# Altium schematic symbol library Nuvoton_Nano100BN Series.SchLib: 17 symbols
Pins are listed as number, name and electrical type; pins without a type are passive.

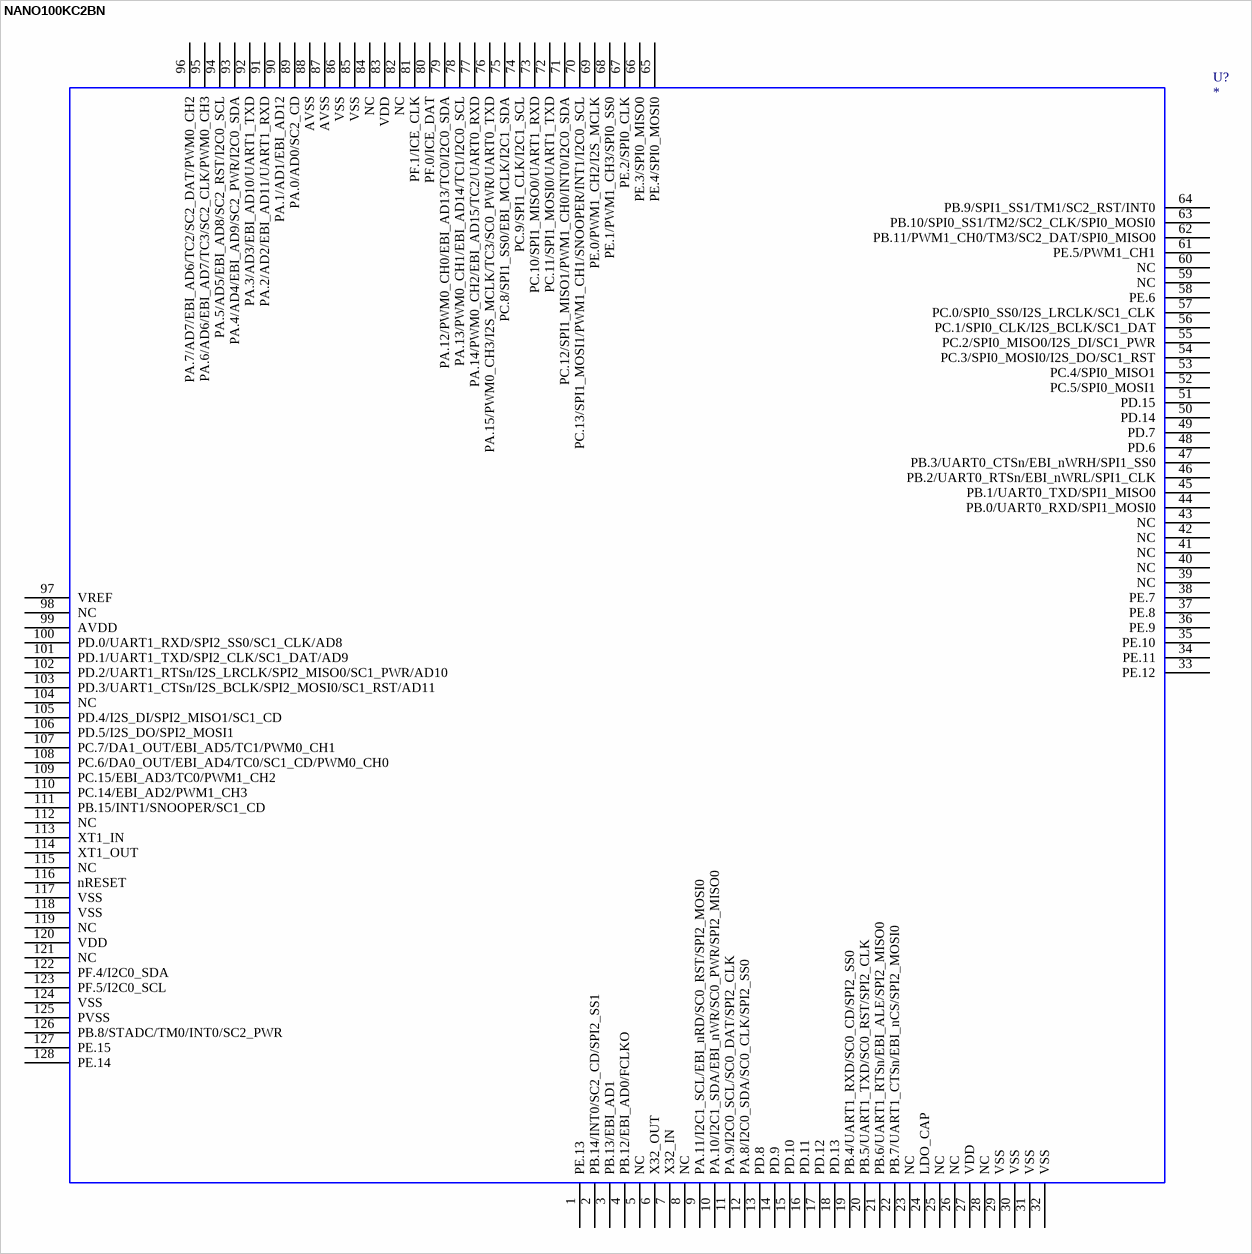
[diagram p0: symbol NANO100KC2BN]

## NANO100KC2BN
designator U?
NANO100KC2BN; OriginalSymbolOrigin: *; NANO100KC2BN: *; Value: *
footprint __MCU_LQFP_128__
pins: 1 PE.13, 2 PB.14/INT0/SC2_CD/SPI2_SS1, 3 PB.13/EBI_AD1, 4 PB.12/EBI_AD0/FCLKO, 5 NC, 6 X32_OUT, 7 X32_IN, 8 NC, 9 PA.11/I2C1_SCL/EBI_nRD/SC0_RST/SPI2_MOSI0, 10 PA.10/I2C1_SDA/EBI_nWR/SC0_PWR/SPI2_MISO0, 11 PA.9/I2C0_SCL/SC0_DAT/SPI2_CLK, 12 PA.8/I2C0_SDA/SC0_CLK/SPI2_SS0, 13 PD.8, 14 PD.9, 15 PD.10, 16 PD.11, 17 PD.12, 18 PD.13, 19 PB.4/UART1_RXD/SC0_CD/SPI2_SS0, 20 PB.5/UART1_TXD/SC0_RST/SPI2_CLK, 21 PB.6/UART1_RTSn/EBI_ALE/SPI2_MISO0, 22 PB.7/UART1_CTSn/EBI_nCS/SPI2_MOSI0, 23 NC, 24 LDO_CAP, 25 NC, 26 NC, 27 VDD, 28 NC, 29 VSS, 30 VSS, 31 VSS, 32 VSS, 33 PE.12, 34 PE.11, 35 PE.10, 36 PE.9, 37 PE.8, 38 PE.7, 39 NC, 40 NC, 41 NC, 42 NC, 43 NC, 44 PB.0/UART0_RXD/SPI1_MOSI0, 45 PB.1/UART0_TXD/SPI1_MISO0, 46 PB.2/UART0_RTSn/EBI_nWRL/SPI1_CLK, 47 PB.3/UART0_CTSn/EBI_nWRH/SPI1_SS0, 48 PD.6, 49 PD.7, 50 PD.14, 51 PD.15, 52 PC.5/SPI0_MOSI1, 53 PC.4/SPI0_MISO1, 54 PC.3/SPI0_MOSI0/I2S_DO/SC1_RST, 55 PC.2/SPI0_MISO0/I2S_DI/SC1_PWR, 56 PC.1/SPI0_CLK/I2S_BCLK/SC1_DAT, 57 PC.0/SPI0_SS0/I2S_LRCLK/SC1_CLK, 58 PE.6, 59 NC, 60 NC, 61 PE.5/PWM1_CH1, 62 PB.11/PWM1_CH0/TM3/SC2_DAT/SPI0_MISO0, 63 PB.10/SPI0_SS1/TM2/SC2_CLK/SPI0_MOSI0, 64 PB.9/SPI1_SS1/TM1/SC2_RST/INT0, 65 PE.4/SPI0_MOSI0, 66 PE.3/SPI0_MISO0, 67 PE.2/SPI0_CLK, 68 PE.1/PWM1_CH3/SPI0_SS0, 69 PE.0/PWM1_CH2/I2S_MCLK, 70 PC.13/SPI1_MOSI1/PWM1_CH1/SNOOPER/INT1/I2C0_SCL, 71 PC.12/SPI1_MISO1/PWM1_CH0/INT0/I2C0_SDA, 72 PC.11/SPI1_MOSI0/UART1_TXD, 73 PC.10/SPI1_MISO0/UART1_RXD, 74 PC.9/SPI1_CLK/I2C1_SCL, 75 PC.8/SPI1_SS0/EBI_MCLK/I2C1_SDA, 76 PA.15/PWM0_CH3/I2S_MCLK/TC3/SC0_PWR/UART0_TXD, 77 PA.14/PWM0_CH2/EBI_AD15/TC2/UART0_RXD, 78 PA.13/PWM0_CH1/EBI_AD14/TC1/I2C0_SCL, 79 PA.12/PWM0_CH0/EBI_AD13/TC0/I2C0_SDA, 80 PF.0/ICE_DAT, 81 PF.1/ICE_CLK, 82 NC, 83 VDD, 84 NC, 85 VSS, 86 VSS, 87 AVSS, 88 AVSS, 89 PA.0/AD0/SC2_CD, 90 PA.1/AD1/EBI_AD12, 91 PA.2/AD2/EBI_AD11/UART1_RXD, 92 PA.3/AD3/EBI_AD10/UART1_TXD, 93 PA.4/AD4/EBI_AD9/SC2_PWR/I2C0_SDA, 94 PA.5/AD5/EBI_AD8/SC2_RST/I2C0_SCL, 95 PA.6/AD6/EBI_AD7/TC3/SC2_CLK/PWM0_CH3, 96 PA.7/AD7/EBI_AD6/TC2/SC2_DAT/PWM0_CH2, 97 VREF, 98 NC, 99 AVDD, 100 PD.0/UART1_RXD/SPI2_SS0/SC1_CLK/AD8, 101 PD.1/UART1_TXD/SPI2_CLK/SC1_DAT/AD9, 102 PD.2/UART1_RTSn/I2S_LRCLK/SPI2_MISO0/SC1_PWR/AD10, 103 PD.3/UART1_CTSn/I2S_BCLK/SPI2_MOSI0/SC1_RST/AD11, 104 NC, 105 PD.4/I2S_DI/SPI2_MISO1/SC1_CD, 106 PD.5/I2S_DO/SPI2_MOSI1, 107 PC.7/DA1_OUT/EBI_AD5/TC1/PWM0_CH1, 108 PC.6/DA0_OUT/EBI_AD4/TC0/SC1_CD/PWM0_CH0, 109 PC.15/EBI_AD3/TC0/PWM1_CH2, 110 PC.14/EBI_AD2/PWM1_CH3, 111 PB.15/INT1/SNOOPER/SC1_CD, 112 NC, 113 XT1_IN, 114 XT1_OUT, 115 NC, 116 nRESET, 117 VSS, 118 VSS, 119 NC, 120 VDD, 121 NC, 122 PF.4/I2C0_SDA, 123 PF.5/I2C0_SCL, 124 VSS, 125 PVSS, 126 PB.8/STADC/TM0/INT0/SC2_PWR, 127 PE.15, 128 PE.14
2 alternate drawings of the same symbol

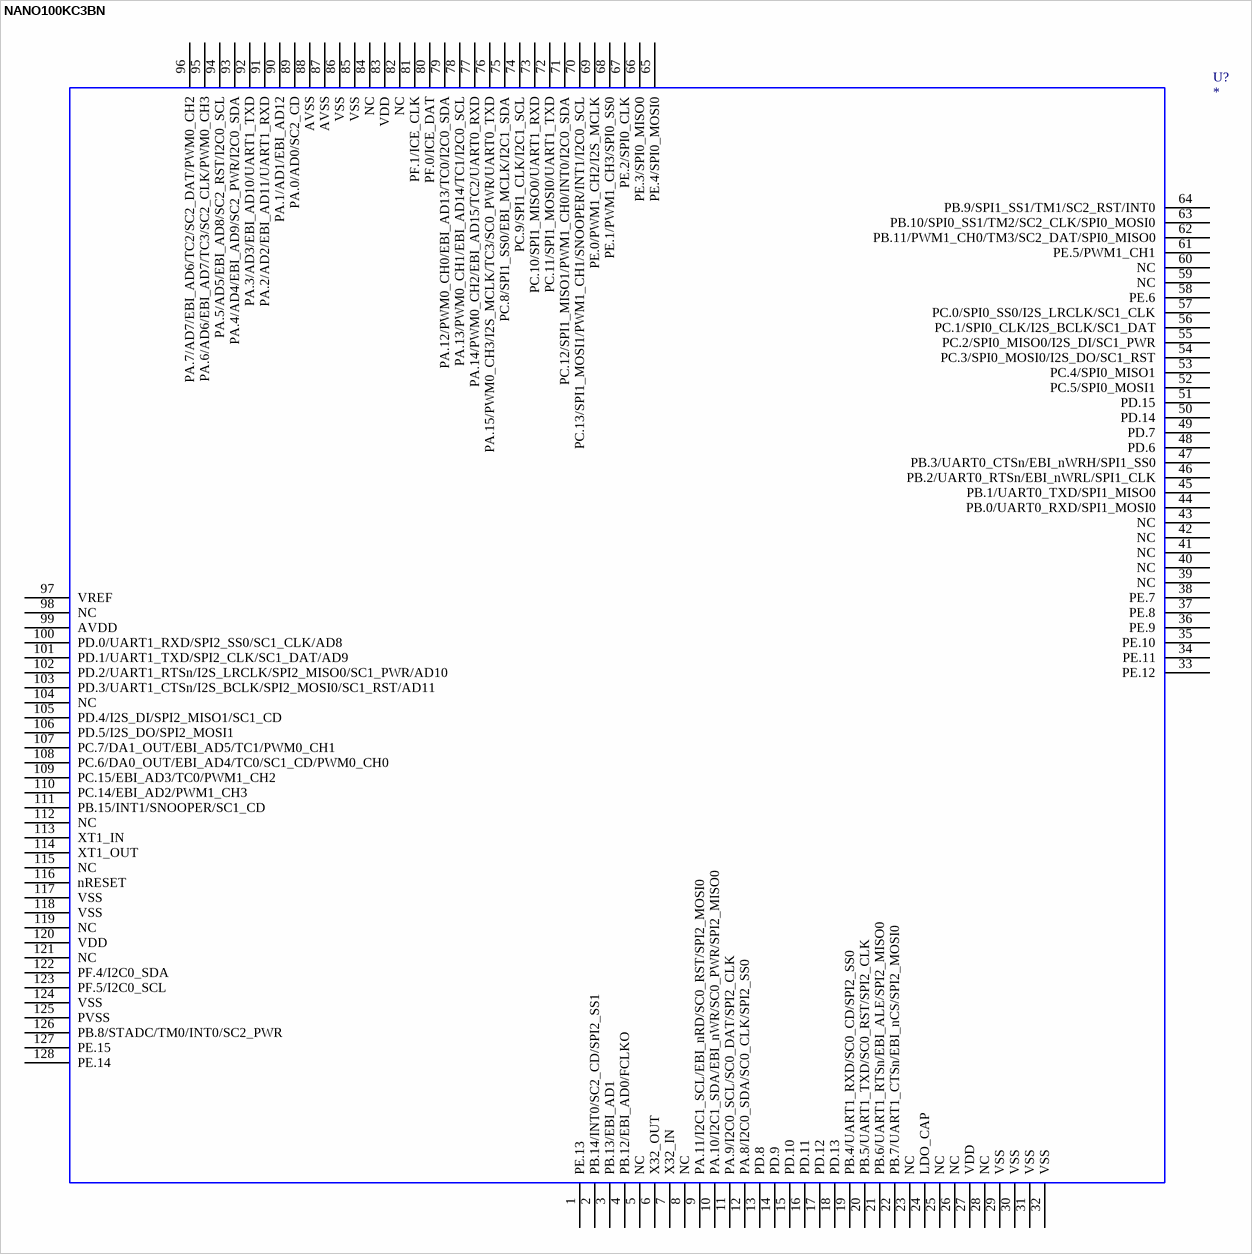
[diagram p1: symbol NANO100KC3BN]

## NANO100KC3BN
designator U?
NANO100KC3BN; OriginalSymbolOrigin: *; NANO100KC3BN: *; Value: *
footprint __MCU_LQFP_128__
pins: 1 PE.13, 2 PB.14/INT0/SC2_CD/SPI2_SS1, 3 PB.13/EBI_AD1, 4 PB.12/EBI_AD0/FCLKO, 5 NC, 6 X32_OUT, 7 X32_IN, 8 NC, 9 PA.11/I2C1_SCL/EBI_nRD/SC0_RST/SPI2_MOSI0, 10 PA.10/I2C1_SDA/EBI_nWR/SC0_PWR/SPI2_MISO0, 11 PA.9/I2C0_SCL/SC0_DAT/SPI2_CLK, 12 PA.8/I2C0_SDA/SC0_CLK/SPI2_SS0, 13 PD.8, 14 PD.9, 15 PD.10, 16 PD.11, 17 PD.12, 18 PD.13, 19 PB.4/UART1_RXD/SC0_CD/SPI2_SS0, 20 PB.5/UART1_TXD/SC0_RST/SPI2_CLK, 21 PB.6/UART1_RTSn/EBI_ALE/SPI2_MISO0, 22 PB.7/UART1_CTSn/EBI_nCS/SPI2_MOSI0, 23 NC, 24 LDO_CAP, 25 NC, 26 NC, 27 VDD, 28 NC, 29 VSS, 30 VSS, 31 VSS, 32 VSS, 33 PE.12, 34 PE.11, 35 PE.10, 36 PE.9, 37 PE.8, 38 PE.7, 39 NC, 40 NC, 41 NC, 42 NC, 43 NC, 44 PB.0/UART0_RXD/SPI1_MOSI0, 45 PB.1/UART0_TXD/SPI1_MISO0, 46 PB.2/UART0_RTSn/EBI_nWRL/SPI1_CLK, 47 PB.3/UART0_CTSn/EBI_nWRH/SPI1_SS0, 48 PD.6, 49 PD.7, 50 PD.14, 51 PD.15, 52 PC.5/SPI0_MOSI1, 53 PC.4/SPI0_MISO1, 54 PC.3/SPI0_MOSI0/I2S_DO/SC1_RST, 55 PC.2/SPI0_MISO0/I2S_DI/SC1_PWR, 56 PC.1/SPI0_CLK/I2S_BCLK/SC1_DAT, 57 PC.0/SPI0_SS0/I2S_LRCLK/SC1_CLK, 58 PE.6, 59 NC, 60 NC, 61 PE.5/PWM1_CH1, 62 PB.11/PWM1_CH0/TM3/SC2_DAT/SPI0_MISO0, 63 PB.10/SPI0_SS1/TM2/SC2_CLK/SPI0_MOSI0, 64 PB.9/SPI1_SS1/TM1/SC2_RST/INT0, 65 PE.4/SPI0_MOSI0, 66 PE.3/SPI0_MISO0, 67 PE.2/SPI0_CLK, 68 PE.1/PWM1_CH3/SPI0_SS0, 69 PE.0/PWM1_CH2/I2S_MCLK, 70 PC.13/SPI1_MOSI1/PWM1_CH1/SNOOPER/INT1/I2C0_SCL, 71 PC.12/SPI1_MISO1/PWM1_CH0/INT0/I2C0_SDA, 72 PC.11/SPI1_MOSI0/UART1_TXD, 73 PC.10/SPI1_MISO0/UART1_RXD, 74 PC.9/SPI1_CLK/I2C1_SCL, 75 PC.8/SPI1_SS0/EBI_MCLK/I2C1_SDA, 76 PA.15/PWM0_CH3/I2S_MCLK/TC3/SC0_PWR/UART0_TXD, 77 PA.14/PWM0_CH2/EBI_AD15/TC2/UART0_RXD, 78 PA.13/PWM0_CH1/EBI_AD14/TC1/I2C0_SCL, 79 PA.12/PWM0_CH0/EBI_AD13/TC0/I2C0_SDA, 80 PF.0/ICE_DAT, 81 PF.1/ICE_CLK, 82 NC, 83 VDD, 84 NC, 85 VSS, 86 VSS, 87 AVSS, 88 AVSS, 89 PA.0/AD0/SC2_CD, 90 PA.1/AD1/EBI_AD12, 91 PA.2/AD2/EBI_AD11/UART1_RXD, 92 PA.3/AD3/EBI_AD10/UART1_TXD, 93 PA.4/AD4/EBI_AD9/SC2_PWR/I2C0_SDA, 94 PA.5/AD5/EBI_AD8/SC2_RST/I2C0_SCL, 95 PA.6/AD6/EBI_AD7/TC3/SC2_CLK/PWM0_CH3, 96 PA.7/AD7/EBI_AD6/TC2/SC2_DAT/PWM0_CH2, 97 VREF, 98 NC, 99 AVDD, 100 PD.0/UART1_RXD/SPI2_SS0/SC1_CLK/AD8, 101 PD.1/UART1_TXD/SPI2_CLK/SC1_DAT/AD9, 102 PD.2/UART1_RTSn/I2S_LRCLK/SPI2_MISO0/SC1_PWR/AD10, 103 PD.3/UART1_CTSn/I2S_BCLK/SPI2_MOSI0/SC1_RST/AD11, 104 NC, 105 PD.4/I2S_DI/SPI2_MISO1/SC1_CD, 106 PD.5/I2S_DO/SPI2_MOSI1, 107 PC.7/DA1_OUT/EBI_AD5/TC1/PWM0_CH1, 108 PC.6/DA0_OUT/EBI_AD4/TC0/SC1_CD/PWM0_CH0, 109 PC.15/EBI_AD3/TC0/PWM1_CH2, 110 PC.14/EBI_AD2/PWM1_CH3, 111 PB.15/INT1/SNOOPER/SC1_CD, 112 NC, 113 XT1_IN, 114 XT1_OUT, 115 NC, 116 nRESET, 117 VSS, 118 VSS, 119 NC, 120 VDD, 121 NC, 122 PF.4/I2C0_SDA, 123 PF.5/I2C0_SCL, 124 VSS, 125 PVSS, 126 PB.8/STADC/TM0/INT0/SC2_PWR, 127 PE.15, 128 PE.14
2 alternate drawings of the same symbol

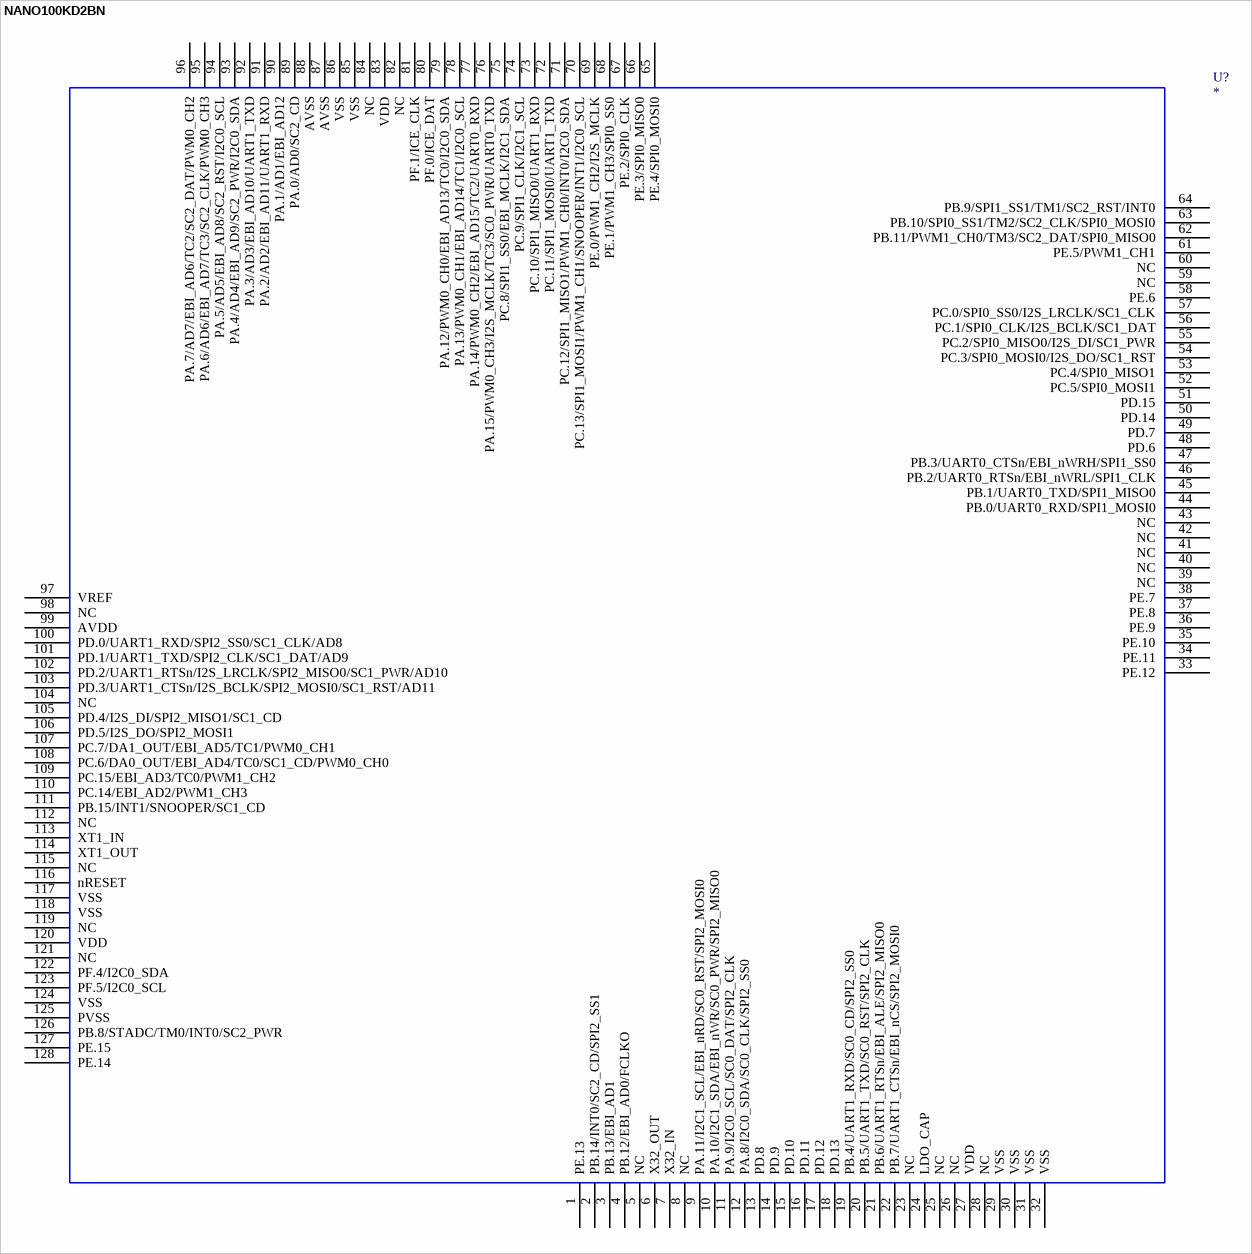
[diagram p2: symbol NANO100KD2BN]

## NANO100KD2BN
designator U?
NANO100KD2BN; OriginalSymbolOrigin: *; NANO100KD2BN: *; Value: *
footprint __MCU_LQFP_128__
pins: 1 PE.13, 2 PB.14/INT0/SC2_CD/SPI2_SS1, 3 PB.13/EBI_AD1, 4 PB.12/EBI_AD0/FCLKO, 5 NC, 6 X32_OUT, 7 X32_IN, 8 NC, 9 PA.11/I2C1_SCL/EBI_nRD/SC0_RST/SPI2_MOSI0, 10 PA.10/I2C1_SDA/EBI_nWR/SC0_PWR/SPI2_MISO0, 11 PA.9/I2C0_SCL/SC0_DAT/SPI2_CLK, 12 PA.8/I2C0_SDA/SC0_CLK/SPI2_SS0, 13 PD.8, 14 PD.9, 15 PD.10, 16 PD.11, 17 PD.12, 18 PD.13, 19 PB.4/UART1_RXD/SC0_CD/SPI2_SS0, 20 PB.5/UART1_TXD/SC0_RST/SPI2_CLK, 21 PB.6/UART1_RTSn/EBI_ALE/SPI2_MISO0, 22 PB.7/UART1_CTSn/EBI_nCS/SPI2_MOSI0, 23 NC, 24 LDO_CAP, 25 NC, 26 NC, 27 VDD, 28 NC, 29 VSS, 30 VSS, 31 VSS, 32 VSS, 33 PE.12, 34 PE.11, 35 PE.10, 36 PE.9, 37 PE.8, 38 PE.7, 39 NC, 40 NC, 41 NC, 42 NC, 43 NC, 44 PB.0/UART0_RXD/SPI1_MOSI0, 45 PB.1/UART0_TXD/SPI1_MISO0, 46 PB.2/UART0_RTSn/EBI_nWRL/SPI1_CLK, 47 PB.3/UART0_CTSn/EBI_nWRH/SPI1_SS0, 48 PD.6, 49 PD.7, 50 PD.14, 51 PD.15, 52 PC.5/SPI0_MOSI1, 53 PC.4/SPI0_MISO1, 54 PC.3/SPI0_MOSI0/I2S_DO/SC1_RST, 55 PC.2/SPI0_MISO0/I2S_DI/SC1_PWR, 56 PC.1/SPI0_CLK/I2S_BCLK/SC1_DAT, 57 PC.0/SPI0_SS0/I2S_LRCLK/SC1_CLK, 58 PE.6, 59 NC, 60 NC, 61 PE.5/PWM1_CH1, 62 PB.11/PWM1_CH0/TM3/SC2_DAT/SPI0_MISO0, 63 PB.10/SPI0_SS1/TM2/SC2_CLK/SPI0_MOSI0, 64 PB.9/SPI1_SS1/TM1/SC2_RST/INT0, 65 PE.4/SPI0_MOSI0, 66 PE.3/SPI0_MISO0, 67 PE.2/SPI0_CLK, 68 PE.1/PWM1_CH3/SPI0_SS0, 69 PE.0/PWM1_CH2/I2S_MCLK, 70 PC.13/SPI1_MOSI1/PWM1_CH1/SNOOPER/INT1/I2C0_SCL, 71 PC.12/SPI1_MISO1/PWM1_CH0/INT0/I2C0_SDA, 72 PC.11/SPI1_MOSI0/UART1_TXD, 73 PC.10/SPI1_MISO0/UART1_RXD, 74 PC.9/SPI1_CLK/I2C1_SCL, 75 PC.8/SPI1_SS0/EBI_MCLK/I2C1_SDA, 76 PA.15/PWM0_CH3/I2S_MCLK/TC3/SC0_PWR/UART0_TXD, 77 PA.14/PWM0_CH2/EBI_AD15/TC2/UART0_RXD, 78 PA.13/PWM0_CH1/EBI_AD14/TC1/I2C0_SCL, 79 PA.12/PWM0_CH0/EBI_AD13/TC0/I2C0_SDA, 80 PF.0/ICE_DAT, 81 PF.1/ICE_CLK, 82 NC, 83 VDD, 84 NC, 85 VSS, 86 VSS, 87 AVSS, 88 AVSS, 89 PA.0/AD0/SC2_CD, 90 PA.1/AD1/EBI_AD12, 91 PA.2/AD2/EBI_AD11/UART1_RXD, 92 PA.3/AD3/EBI_AD10/UART1_TXD, 93 PA.4/AD4/EBI_AD9/SC2_PWR/I2C0_SDA, 94 PA.5/AD5/EBI_AD8/SC2_RST/I2C0_SCL, 95 PA.6/AD6/EBI_AD7/TC3/SC2_CLK/PWM0_CH3, 96 PA.7/AD7/EBI_AD6/TC2/SC2_DAT/PWM0_CH2, 97 VREF, 98 NC, 99 AVDD, 100 PD.0/UART1_RXD/SPI2_SS0/SC1_CLK/AD8, 101 PD.1/UART1_TXD/SPI2_CLK/SC1_DAT/AD9, 102 PD.2/UART1_RTSn/I2S_LRCLK/SPI2_MISO0/SC1_PWR/AD10, 103 PD.3/UART1_CTSn/I2S_BCLK/SPI2_MOSI0/SC1_RST/AD11, 104 NC, 105 PD.4/I2S_DI/SPI2_MISO1/SC1_CD, 106 PD.5/I2S_DO/SPI2_MOSI1, 107 PC.7/DA1_OUT/EBI_AD5/TC1/PWM0_CH1, 108 PC.6/DA0_OUT/EBI_AD4/TC0/SC1_CD/PWM0_CH0, 109 PC.15/EBI_AD3/TC0/PWM1_CH2, 110 PC.14/EBI_AD2/PWM1_CH3, 111 PB.15/INT1/SNOOPER/SC1_CD, 112 NC, 113 XT1_IN, 114 XT1_OUT, 115 NC, 116 nRESET, 117 VSS, 118 VSS, 119 NC, 120 VDD, 121 NC, 122 PF.4/I2C0_SDA, 123 PF.5/I2C0_SCL, 124 VSS, 125 PVSS, 126 PB.8/STADC/TM0/INT0/SC2_PWR, 127 PE.15, 128 PE.14
2 alternate drawings of the same symbol

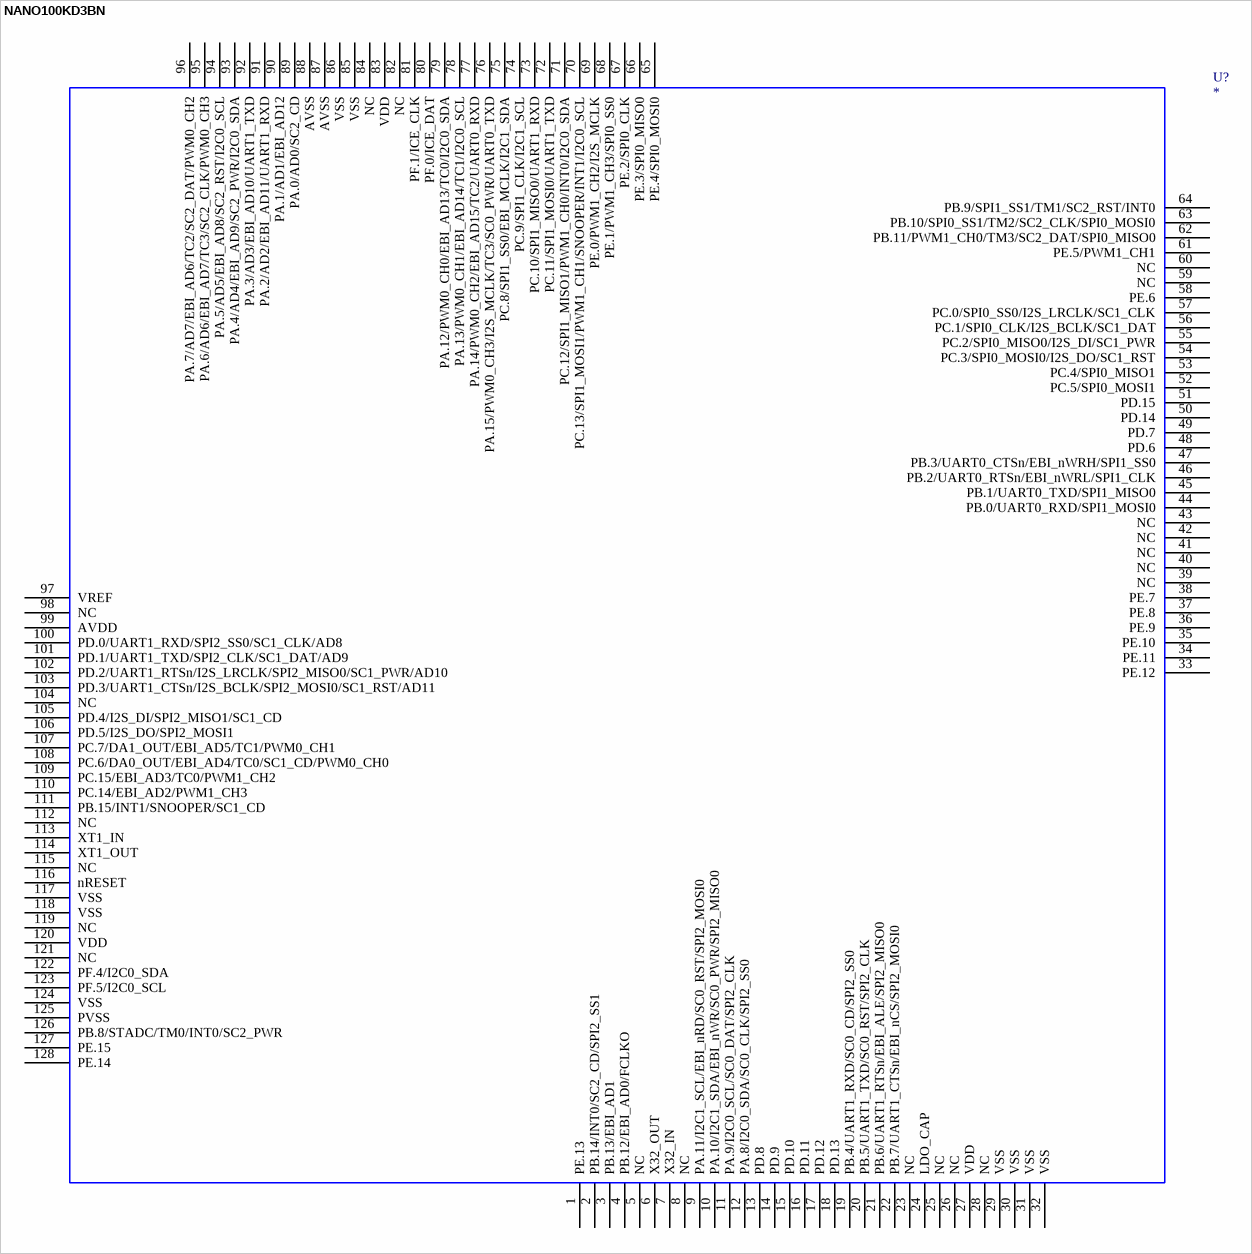
[diagram p3: symbol NANO100KD3BN]

## NANO100KD3BN
designator U?
NANO100KD3BN; OriginalSymbolOrigin: *; NANO100KD3BN: *; Value: *
footprint __MCU_LQFP_128__
pins: 1 PE.13, 2 PB.14/INT0/SC2_CD/SPI2_SS1, 3 PB.13/EBI_AD1, 4 PB.12/EBI_AD0/FCLKO, 5 NC, 6 X32_OUT, 7 X32_IN, 8 NC, 9 PA.11/I2C1_SCL/EBI_nRD/SC0_RST/SPI2_MOSI0, 10 PA.10/I2C1_SDA/EBI_nWR/SC0_PWR/SPI2_MISO0, 11 PA.9/I2C0_SCL/SC0_DAT/SPI2_CLK, 12 PA.8/I2C0_SDA/SC0_CLK/SPI2_SS0, 13 PD.8, 14 PD.9, 15 PD.10, 16 PD.11, 17 PD.12, 18 PD.13, 19 PB.4/UART1_RXD/SC0_CD/SPI2_SS0, 20 PB.5/UART1_TXD/SC0_RST/SPI2_CLK, 21 PB.6/UART1_RTSn/EBI_ALE/SPI2_MISO0, 22 PB.7/UART1_CTSn/EBI_nCS/SPI2_MOSI0, 23 NC, 24 LDO_CAP, 25 NC, 26 NC, 27 VDD, 28 NC, 29 VSS, 30 VSS, 31 VSS, 32 VSS, 33 PE.12, 34 PE.11, 35 PE.10, 36 PE.9, 37 PE.8, 38 PE.7, 39 NC, 40 NC, 41 NC, 42 NC, 43 NC, 44 PB.0/UART0_RXD/SPI1_MOSI0, 45 PB.1/UART0_TXD/SPI1_MISO0, 46 PB.2/UART0_RTSn/EBI_nWRL/SPI1_CLK, 47 PB.3/UART0_CTSn/EBI_nWRH/SPI1_SS0, 48 PD.6, 49 PD.7, 50 PD.14, 51 PD.15, 52 PC.5/SPI0_MOSI1, 53 PC.4/SPI0_MISO1, 54 PC.3/SPI0_MOSI0/I2S_DO/SC1_RST, 55 PC.2/SPI0_MISO0/I2S_DI/SC1_PWR, 56 PC.1/SPI0_CLK/I2S_BCLK/SC1_DAT, 57 PC.0/SPI0_SS0/I2S_LRCLK/SC1_CLK, 58 PE.6, 59 NC, 60 NC, 61 PE.5/PWM1_CH1, 62 PB.11/PWM1_CH0/TM3/SC2_DAT/SPI0_MISO0, 63 PB.10/SPI0_SS1/TM2/SC2_CLK/SPI0_MOSI0, 64 PB.9/SPI1_SS1/TM1/SC2_RST/INT0, 65 PE.4/SPI0_MOSI0, 66 PE.3/SPI0_MISO0, 67 PE.2/SPI0_CLK, 68 PE.1/PWM1_CH3/SPI0_SS0, 69 PE.0/PWM1_CH2/I2S_MCLK, 70 PC.13/SPI1_MOSI1/PWM1_CH1/SNOOPER/INT1/I2C0_SCL, 71 PC.12/SPI1_MISO1/PWM1_CH0/INT0/I2C0_SDA, 72 PC.11/SPI1_MOSI0/UART1_TXD, 73 PC.10/SPI1_MISO0/UART1_RXD, 74 PC.9/SPI1_CLK/I2C1_SCL, 75 PC.8/SPI1_SS0/EBI_MCLK/I2C1_SDA, 76 PA.15/PWM0_CH3/I2S_MCLK/TC3/SC0_PWR/UART0_TXD, 77 PA.14/PWM0_CH2/EBI_AD15/TC2/UART0_RXD, 78 PA.13/PWM0_CH1/EBI_AD14/TC1/I2C0_SCL, 79 PA.12/PWM0_CH0/EBI_AD13/TC0/I2C0_SDA, 80 PF.0/ICE_DAT, 81 PF.1/ICE_CLK, 82 NC, 83 VDD, 84 NC, 85 VSS, 86 VSS, 87 AVSS, 88 AVSS, 89 PA.0/AD0/SC2_CD, 90 PA.1/AD1/EBI_AD12, 91 PA.2/AD2/EBI_AD11/UART1_RXD, 92 PA.3/AD3/EBI_AD10/UART1_TXD, 93 PA.4/AD4/EBI_AD9/SC2_PWR/I2C0_SDA, 94 PA.5/AD5/EBI_AD8/SC2_RST/I2C0_SCL, 95 PA.6/AD6/EBI_AD7/TC3/SC2_CLK/PWM0_CH3, 96 PA.7/AD7/EBI_AD6/TC2/SC2_DAT/PWM0_CH2, 97 VREF, 98 NC, 99 AVDD, 100 PD.0/UART1_RXD/SPI2_SS0/SC1_CLK/AD8, 101 PD.1/UART1_TXD/SPI2_CLK/SC1_DAT/AD9, 102 PD.2/UART1_RTSn/I2S_LRCLK/SPI2_MISO0/SC1_PWR/AD10, 103 PD.3/UART1_CTSn/I2S_BCLK/SPI2_MOSI0/SC1_RST/AD11, 104 NC, 105 PD.4/I2S_DI/SPI2_MISO1/SC1_CD, 106 PD.5/I2S_DO/SPI2_MOSI1, 107 PC.7/DA1_OUT/EBI_AD5/TC1/PWM0_CH1, 108 PC.6/DA0_OUT/EBI_AD4/TC0/SC1_CD/PWM0_CH0, 109 PC.15/EBI_AD3/TC0/PWM1_CH2, 110 PC.14/EBI_AD2/PWM1_CH3, 111 PB.15/INT1/SNOOPER/SC1_CD, 112 NC, 113 XT1_IN, 114 XT1_OUT, 115 NC, 116 nRESET, 117 VSS, 118 VSS, 119 NC, 120 VDD, 121 NC, 122 PF.4/I2C0_SDA, 123 PF.5/I2C0_SCL, 124 VSS, 125 PVSS, 126 PB.8/STADC/TM0/INT0/SC2_PWR, 127 PE.15, 128 PE.14
2 alternate drawings of the same symbol

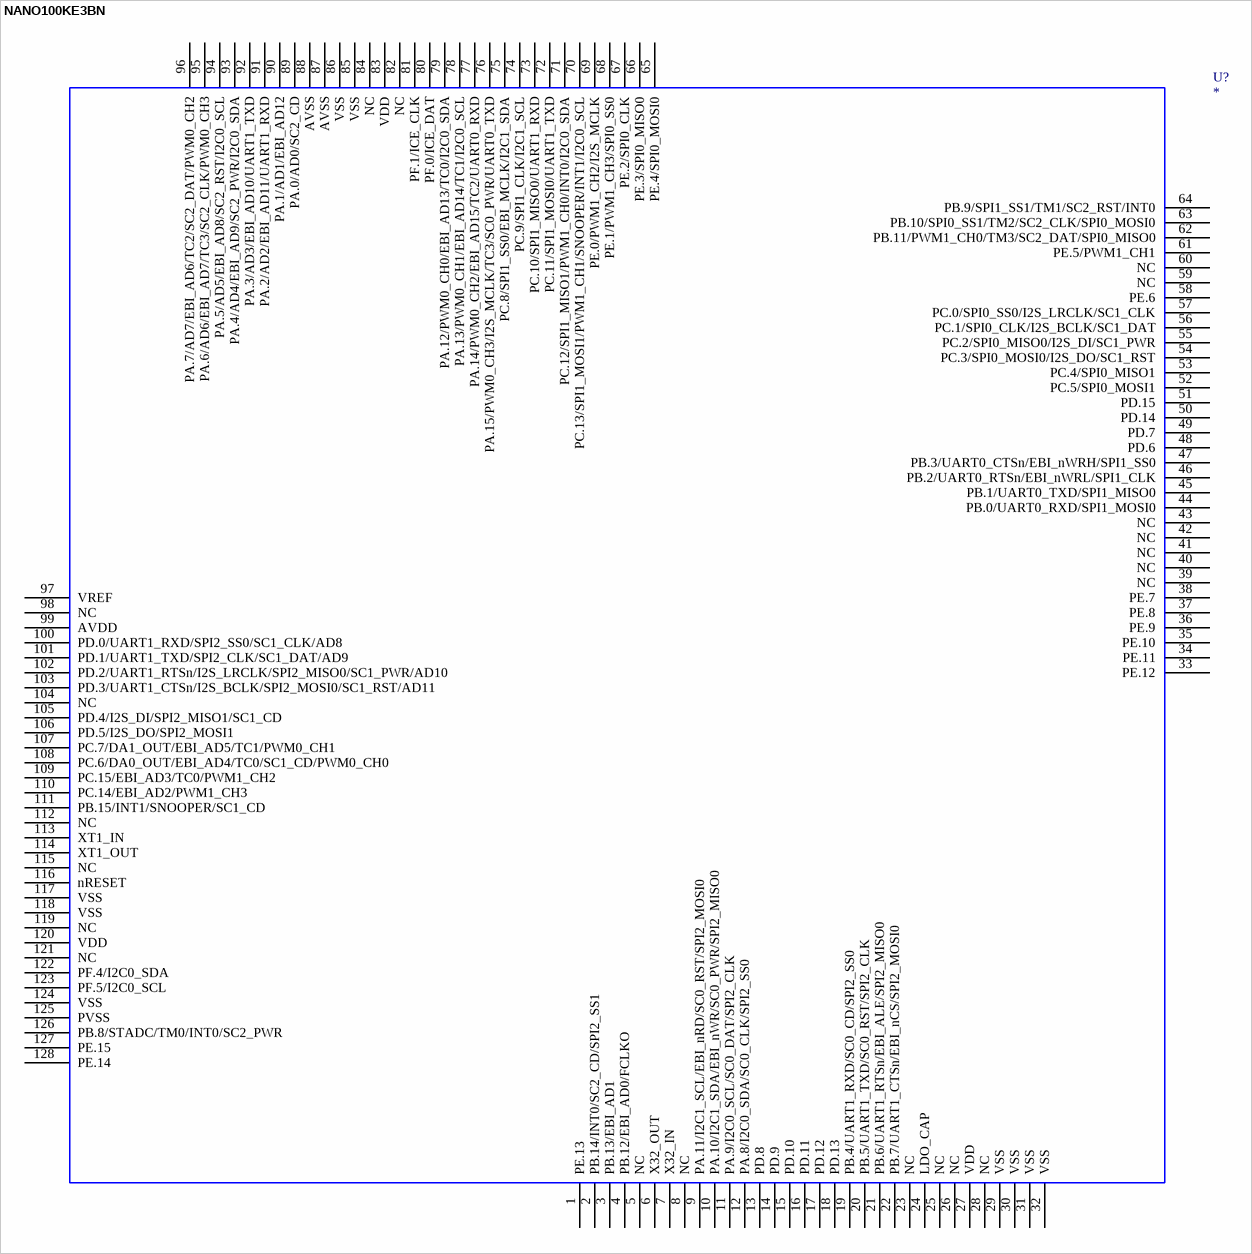
[diagram p4: symbol NANO100KE3BN]

## NANO100KE3BN
designator U?
NANO100KE3BN; OriginalSymbolOrigin: *; NANO100KE3BN: *; Value: *
footprint __MCU_LQFP_128__
pins: 1 PE.13, 2 PB.14/INT0/SC2_CD/SPI2_SS1, 3 PB.13/EBI_AD1, 4 PB.12/EBI_AD0/FCLKO, 5 NC, 6 X32_OUT, 7 X32_IN, 8 NC, 9 PA.11/I2C1_SCL/EBI_nRD/SC0_RST/SPI2_MOSI0, 10 PA.10/I2C1_SDA/EBI_nWR/SC0_PWR/SPI2_MISO0, 11 PA.9/I2C0_SCL/SC0_DAT/SPI2_CLK, 12 PA.8/I2C0_SDA/SC0_CLK/SPI2_SS0, 13 PD.8, 14 PD.9, 15 PD.10, 16 PD.11, 17 PD.12, 18 PD.13, 19 PB.4/UART1_RXD/SC0_CD/SPI2_SS0, 20 PB.5/UART1_TXD/SC0_RST/SPI2_CLK, 21 PB.6/UART1_RTSn/EBI_ALE/SPI2_MISO0, 22 PB.7/UART1_CTSn/EBI_nCS/SPI2_MOSI0, 23 NC, 24 LDO_CAP, 25 NC, 26 NC, 27 VDD, 28 NC, 29 VSS, 30 VSS, 31 VSS, 32 VSS, 33 PE.12, 34 PE.11, 35 PE.10, 36 PE.9, 37 PE.8, 38 PE.7, 39 NC, 40 NC, 41 NC, 42 NC, 43 NC, 44 PB.0/UART0_RXD/SPI1_MOSI0, 45 PB.1/UART0_TXD/SPI1_MISO0, 46 PB.2/UART0_RTSn/EBI_nWRL/SPI1_CLK, 47 PB.3/UART0_CTSn/EBI_nWRH/SPI1_SS0, 48 PD.6, 49 PD.7, 50 PD.14, 51 PD.15, 52 PC.5/SPI0_MOSI1, 53 PC.4/SPI0_MISO1, 54 PC.3/SPI0_MOSI0/I2S_DO/SC1_RST, 55 PC.2/SPI0_MISO0/I2S_DI/SC1_PWR, 56 PC.1/SPI0_CLK/I2S_BCLK/SC1_DAT, 57 PC.0/SPI0_SS0/I2S_LRCLK/SC1_CLK, 58 PE.6, 59 NC, 60 NC, 61 PE.5/PWM1_CH1, 62 PB.11/PWM1_CH0/TM3/SC2_DAT/SPI0_MISO0, 63 PB.10/SPI0_SS1/TM2/SC2_CLK/SPI0_MOSI0, 64 PB.9/SPI1_SS1/TM1/SC2_RST/INT0, 65 PE.4/SPI0_MOSI0, 66 PE.3/SPI0_MISO0, 67 PE.2/SPI0_CLK, 68 PE.1/PWM1_CH3/SPI0_SS0, 69 PE.0/PWM1_CH2/I2S_MCLK, 70 PC.13/SPI1_MOSI1/PWM1_CH1/SNOOPER/INT1/I2C0_SCL, 71 PC.12/SPI1_MISO1/PWM1_CH0/INT0/I2C0_SDA, 72 PC.11/SPI1_MOSI0/UART1_TXD, 73 PC.10/SPI1_MISO0/UART1_RXD, 74 PC.9/SPI1_CLK/I2C1_SCL, 75 PC.8/SPI1_SS0/EBI_MCLK/I2C1_SDA, 76 PA.15/PWM0_CH3/I2S_MCLK/TC3/SC0_PWR/UART0_TXD, 77 PA.14/PWM0_CH2/EBI_AD15/TC2/UART0_RXD, 78 PA.13/PWM0_CH1/EBI_AD14/TC1/I2C0_SCL, 79 PA.12/PWM0_CH0/EBI_AD13/TC0/I2C0_SDA, 80 PF.0/ICE_DAT, 81 PF.1/ICE_CLK, 82 NC, 83 VDD, 84 NC, 85 VSS, 86 VSS, 87 AVSS, 88 AVSS, 89 PA.0/AD0/SC2_CD, 90 PA.1/AD1/EBI_AD12, 91 PA.2/AD2/EBI_AD11/UART1_RXD, 92 PA.3/AD3/EBI_AD10/UART1_TXD, 93 PA.4/AD4/EBI_AD9/SC2_PWR/I2C0_SDA, 94 PA.5/AD5/EBI_AD8/SC2_RST/I2C0_SCL, 95 PA.6/AD6/EBI_AD7/TC3/SC2_CLK/PWM0_CH3, 96 PA.7/AD7/EBI_AD6/TC2/SC2_DAT/PWM0_CH2, 97 VREF, 98 NC, 99 AVDD, 100 PD.0/UART1_RXD/SPI2_SS0/SC1_CLK/AD8, 101 PD.1/UART1_TXD/SPI2_CLK/SC1_DAT/AD9, 102 PD.2/UART1_RTSn/I2S_LRCLK/SPI2_MISO0/SC1_PWR/AD10, 103 PD.3/UART1_CTSn/I2S_BCLK/SPI2_MOSI0/SC1_RST/AD11, 104 NC, 105 PD.4/I2S_DI/SPI2_MISO1/SC1_CD, 106 PD.5/I2S_DO/SPI2_MOSI1, 107 PC.7/DA1_OUT/EBI_AD5/TC1/PWM0_CH1, 108 PC.6/DA0_OUT/EBI_AD4/TC0/SC1_CD/PWM0_CH0, 109 PC.15/EBI_AD3/TC0/PWM1_CH2, 110 PC.14/EBI_AD2/PWM1_CH3, 111 PB.15/INT1/SNOOPER/SC1_CD, 112 NC, 113 XT1_IN, 114 XT1_OUT, 115 NC, 116 nRESET, 117 VSS, 118 VSS, 119 NC, 120 VDD, 121 NC, 122 PF.4/I2C0_SDA, 123 PF.5/I2C0_SCL, 124 VSS, 125 PVSS, 126 PB.8/STADC/TM0/INT0/SC2_PWR, 127 PE.15, 128 PE.14
2 alternate drawings of the same symbol

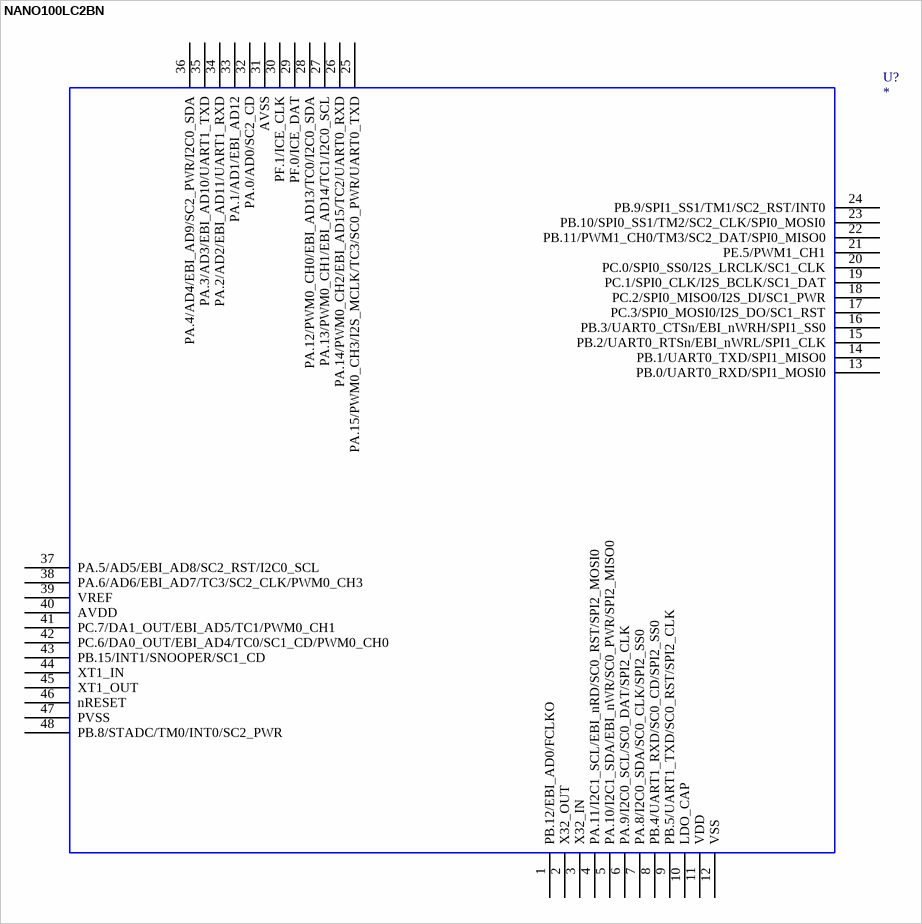
[diagram p5: symbol NANO100LC2BN]

## NANO100LC2BN
designator U?
NANO100LC2BN; OriginalSymbolOrigin: *; NANO100LC2BN: *; Value: *
footprint __MCU_LQFP_48__
pins: 1 PB.12/EBI_AD0/FCLKO, 2 X32_OUT, 3 X32_IN, 4 PA.11/I2C1_SCL/EBI_nRD/SC0_RST/SPI2_MOSI0, 5 PA.10/I2C1_SDA/EBI_nWR/SC0_PWR/SPI2_MISO0, 6 PA.9/I2C0_SCL/SC0_DAT/SPI2_CLK, 7 PA.8/I2C0_SDA/SC0_CLK/SPI2_SS0, 8 PB.4/UART1_RXD/SC0_CD/SPI2_SS0, 9 PB.5/UART1_TXD/SC0_RST/SPI2_CLK, 10 LDO_CAP, 11 VDD, 12 VSS, 13 PB.0/UART0_RXD/SPI1_MOSI0, 14 PB.1/UART0_TXD/SPI1_MISO0, 15 PB.2/UART0_RTSn/EBI_nWRL/SPI1_CLK, 16 PB.3/UART0_CTSn/EBI_nWRH/SPI1_SS0, 17 PC.3/SPI0_MOSI0/I2S_DO/SC1_RST, 18 PC.2/SPI0_MISO0/I2S_DI/SC1_PWR, 19 PC.1/SPI0_CLK/I2S_BCLK/SC1_DAT, 20 PC.0/SPI0_SS0/I2S_LRCLK/SC1_CLK, 21 PE.5/PWM1_CH1, 22 PB.11/PWM1_CH0/TM3/SC2_DAT/SPI0_MISO0, 23 PB.10/SPI0_SS1/TM2/SC2_CLK/SPI0_MOSI0, 24 PB.9/SPI1_SS1/TM1/SC2_RST/INT0, 25 PA.15/PWM0_CH3/I2S_MCLK/TC3/SC0_PWR/UART0_TXD, 26 PA.14/PWM0_CH2/EBI_AD15/TC2/UART0_RXD, 27 PA.13/PWM0_CH1/EBI_AD14/TC1/I2C0_SCL, 28 PA.12/PWM0_CH0/EBI_AD13/TC0/I2C0_SDA, 29 PF.0/ICE_DAT, 30 PF.1/ICE_CLK, 31 AVSS, 32 PA.0/AD0/SC2_CD, 33 PA.1/AD1/EBI_AD12, 34 PA.2/AD2/EBI_AD11/UART1_RXD, 35 PA.3/AD3/EBI_AD10/UART1_TXD, 36 PA.4/AD4/EBI_AD9/SC2_PWR/I2C0_SDA, 37 PA.5/AD5/EBI_AD8/SC2_RST/I2C0_SCL, 38 PA.6/AD6/EBI_AD7/TC3/SC2_CLK/PWM0_CH3, 39 VREF, 40 AVDD, 41 PC.7/DA1_OUT/EBI_AD5/TC1/PWM0_CH1, 42 PC.6/DA0_OUT/EBI_AD4/TC0/SC1_CD/PWM0_CH0, 43 PB.15/INT1/SNOOPER/SC1_CD, 44 XT1_IN, 45 XT1_OUT, 46 nRESET, 47 PVSS, 48 PB.8/STADC/TM0/INT0/SC2_PWR
2 alternate drawings of the same symbol

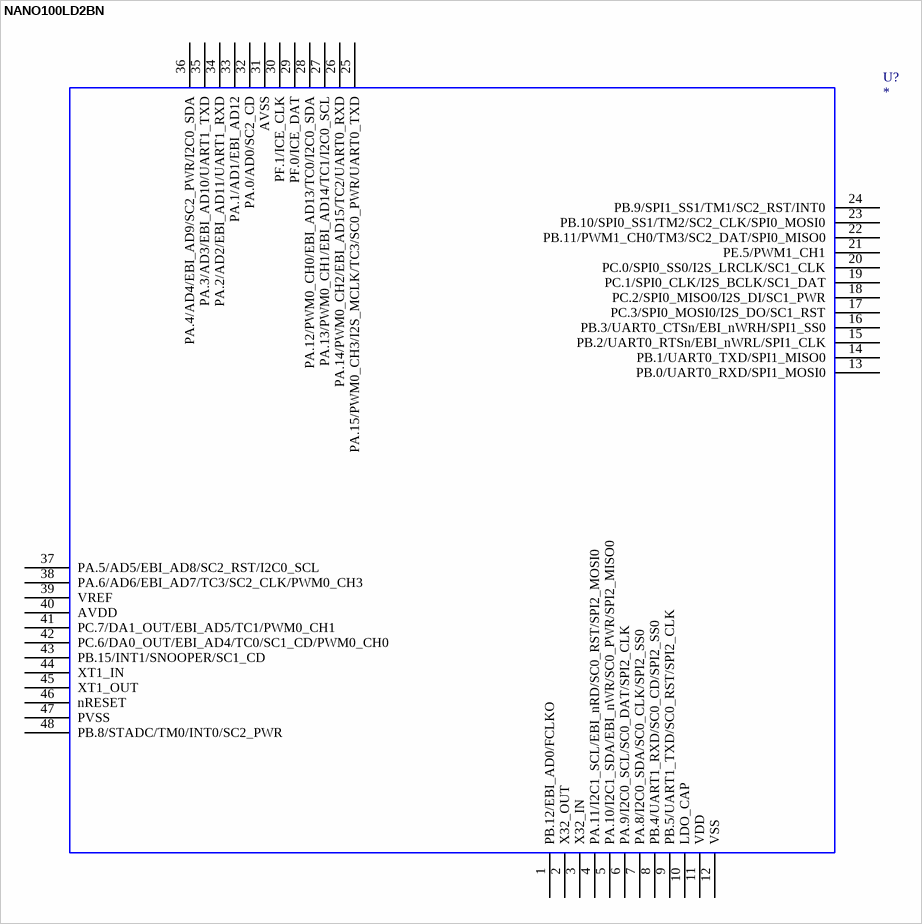
[diagram p6: symbol NANO100LD2BN]

## NANO100LD2BN
designator U?
NANO100LD2BN; OriginalSymbolOrigin: *; NANO100LD2BN: *; Value: *
footprint __MCU_LQFP_48__
pins: 1 PB.12/EBI_AD0/FCLKO, 2 X32_OUT, 3 X32_IN, 4 PA.11/I2C1_SCL/EBI_nRD/SC0_RST/SPI2_MOSI0, 5 PA.10/I2C1_SDA/EBI_nWR/SC0_PWR/SPI2_MISO0, 6 PA.9/I2C0_SCL/SC0_DAT/SPI2_CLK, 7 PA.8/I2C0_SDA/SC0_CLK/SPI2_SS0, 8 PB.4/UART1_RXD/SC0_CD/SPI2_SS0, 9 PB.5/UART1_TXD/SC0_RST/SPI2_CLK, 10 LDO_CAP, 11 VDD, 12 VSS, 13 PB.0/UART0_RXD/SPI1_MOSI0, 14 PB.1/UART0_TXD/SPI1_MISO0, 15 PB.2/UART0_RTSn/EBI_nWRL/SPI1_CLK, 16 PB.3/UART0_CTSn/EBI_nWRH/SPI1_SS0, 17 PC.3/SPI0_MOSI0/I2S_DO/SC1_RST, 18 PC.2/SPI0_MISO0/I2S_DI/SC1_PWR, 19 PC.1/SPI0_CLK/I2S_BCLK/SC1_DAT, 20 PC.0/SPI0_SS0/I2S_LRCLK/SC1_CLK, 21 PE.5/PWM1_CH1, 22 PB.11/PWM1_CH0/TM3/SC2_DAT/SPI0_MISO0, 23 PB.10/SPI0_SS1/TM2/SC2_CLK/SPI0_MOSI0, 24 PB.9/SPI1_SS1/TM1/SC2_RST/INT0, 25 PA.15/PWM0_CH3/I2S_MCLK/TC3/SC0_PWR/UART0_TXD, 26 PA.14/PWM0_CH2/EBI_AD15/TC2/UART0_RXD, 27 PA.13/PWM0_CH1/EBI_AD14/TC1/I2C0_SCL, 28 PA.12/PWM0_CH0/EBI_AD13/TC0/I2C0_SDA, 29 PF.0/ICE_DAT, 30 PF.1/ICE_CLK, 31 AVSS, 32 PA.0/AD0/SC2_CD, 33 PA.1/AD1/EBI_AD12, 34 PA.2/AD2/EBI_AD11/UART1_RXD, 35 PA.3/AD3/EBI_AD10/UART1_TXD, 36 PA.4/AD4/EBI_AD9/SC2_PWR/I2C0_SDA, 37 PA.5/AD5/EBI_AD8/SC2_RST/I2C0_SCL, 38 PA.6/AD6/EBI_AD7/TC3/SC2_CLK/PWM0_CH3, 39 VREF, 40 AVDD, 41 PC.7/DA1_OUT/EBI_AD5/TC1/PWM0_CH1, 42 PC.6/DA0_OUT/EBI_AD4/TC0/SC1_CD/PWM0_CH0, 43 PB.15/INT1/SNOOPER/SC1_CD, 44 XT1_IN, 45 XT1_OUT, 46 nRESET, 47 PVSS, 48 PB.8/STADC/TM0/INT0/SC2_PWR
2 alternate drawings of the same symbol

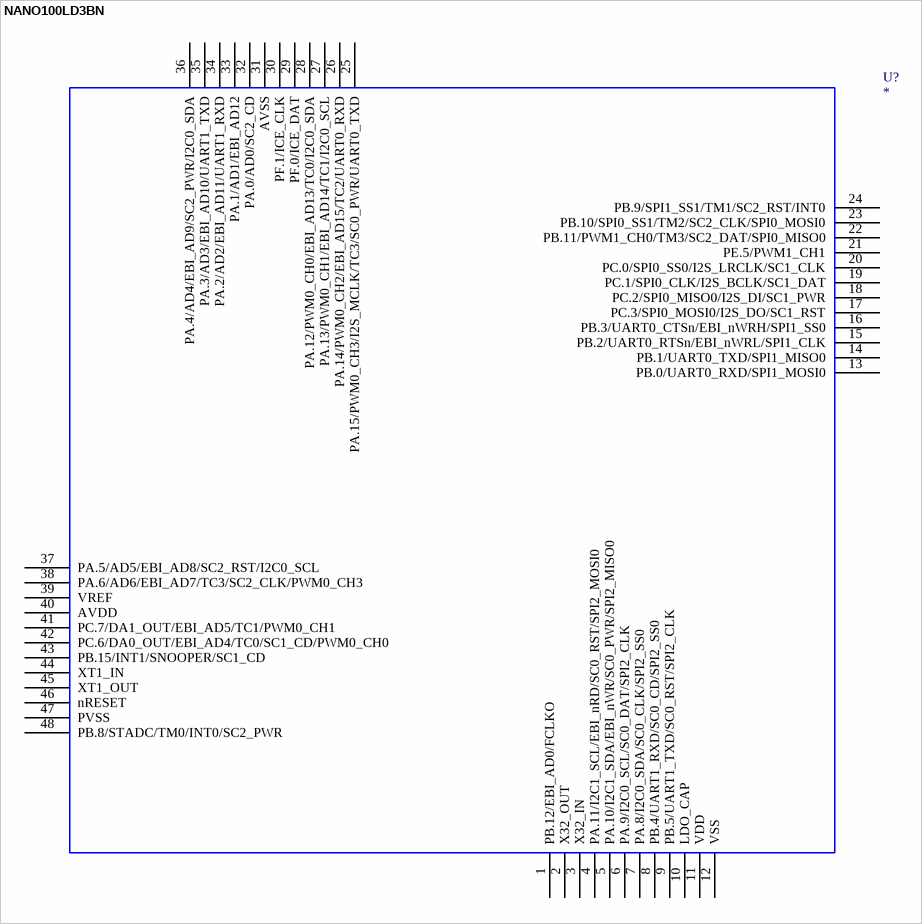
[diagram p7: symbol NANO100LD3BN]

## NANO100LD3BN
designator U?
NANO100LD3BN; OriginalSymbolOrigin: *; NANO100LD3BN: *; Value: *
footprint __MCU_LQFP_48__
pins: 1 PB.12/EBI_AD0/FCLKO, 2 X32_OUT, 3 X32_IN, 4 PA.11/I2C1_SCL/EBI_nRD/SC0_RST/SPI2_MOSI0, 5 PA.10/I2C1_SDA/EBI_nWR/SC0_PWR/SPI2_MISO0, 6 PA.9/I2C0_SCL/SC0_DAT/SPI2_CLK, 7 PA.8/I2C0_SDA/SC0_CLK/SPI2_SS0, 8 PB.4/UART1_RXD/SC0_CD/SPI2_SS0, 9 PB.5/UART1_TXD/SC0_RST/SPI2_CLK, 10 LDO_CAP, 11 VDD, 12 VSS, 13 PB.0/UART0_RXD/SPI1_MOSI0, 14 PB.1/UART0_TXD/SPI1_MISO0, 15 PB.2/UART0_RTSn/EBI_nWRL/SPI1_CLK, 16 PB.3/UART0_CTSn/EBI_nWRH/SPI1_SS0, 17 PC.3/SPI0_MOSI0/I2S_DO/SC1_RST, 18 PC.2/SPI0_MISO0/I2S_DI/SC1_PWR, 19 PC.1/SPI0_CLK/I2S_BCLK/SC1_DAT, 20 PC.0/SPI0_SS0/I2S_LRCLK/SC1_CLK, 21 PE.5/PWM1_CH1, 22 PB.11/PWM1_CH0/TM3/SC2_DAT/SPI0_MISO0, 23 PB.10/SPI0_SS1/TM2/SC2_CLK/SPI0_MOSI0, 24 PB.9/SPI1_SS1/TM1/SC2_RST/INT0, 25 PA.15/PWM0_CH3/I2S_MCLK/TC3/SC0_PWR/UART0_TXD, 26 PA.14/PWM0_CH2/EBI_AD15/TC2/UART0_RXD, 27 PA.13/PWM0_CH1/EBI_AD14/TC1/I2C0_SCL, 28 PA.12/PWM0_CH0/EBI_AD13/TC0/I2C0_SDA, 29 PF.0/ICE_DAT, 30 PF.1/ICE_CLK, 31 AVSS, 32 PA.0/AD0/SC2_CD, 33 PA.1/AD1/EBI_AD12, 34 PA.2/AD2/EBI_AD11/UART1_RXD, 35 PA.3/AD3/EBI_AD10/UART1_TXD, 36 PA.4/AD4/EBI_AD9/SC2_PWR/I2C0_SDA, 37 PA.5/AD5/EBI_AD8/SC2_RST/I2C0_SCL, 38 PA.6/AD6/EBI_AD7/TC3/SC2_CLK/PWM0_CH3, 39 VREF, 40 AVDD, 41 PC.7/DA1_OUT/EBI_AD5/TC1/PWM0_CH1, 42 PC.6/DA0_OUT/EBI_AD4/TC0/SC1_CD/PWM0_CH0, 43 PB.15/INT1/SNOOPER/SC1_CD, 44 XT1_IN, 45 XT1_OUT, 46 nRESET, 47 PVSS, 48 PB.8/STADC/TM0/INT0/SC2_PWR
2 alternate drawings of the same symbol

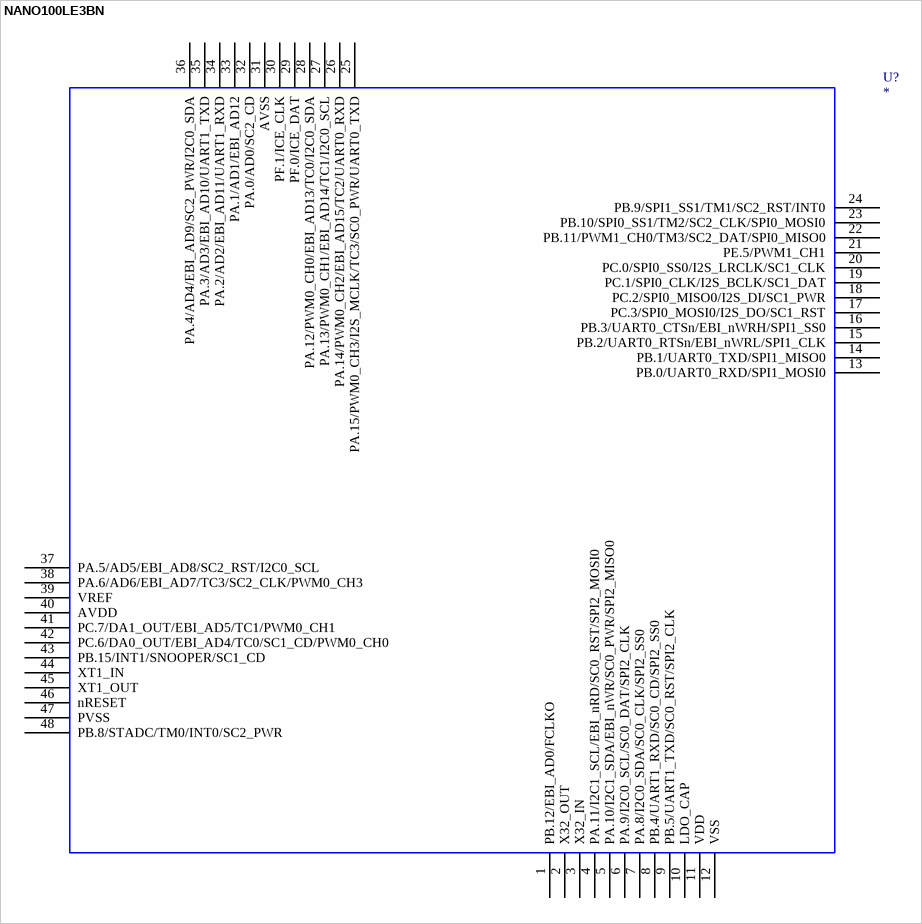
[diagram p8: symbol NANO100LE3BN]

## NANO100LE3BN
designator U?
NANO100LE3BN; OriginalSymbolOrigin: *; NANO100LE3BN: *; Value: *
footprint __MCU_LQFP_48__
pins: 1 PB.12/EBI_AD0/FCLKO, 2 X32_OUT, 3 X32_IN, 4 PA.11/I2C1_SCL/EBI_nRD/SC0_RST/SPI2_MOSI0, 5 PA.10/I2C1_SDA/EBI_nWR/SC0_PWR/SPI2_MISO0, 6 PA.9/I2C0_SCL/SC0_DAT/SPI2_CLK, 7 PA.8/I2C0_SDA/SC0_CLK/SPI2_SS0, 8 PB.4/UART1_RXD/SC0_CD/SPI2_SS0, 9 PB.5/UART1_TXD/SC0_RST/SPI2_CLK, 10 LDO_CAP, 11 VDD, 12 VSS, 13 PB.0/UART0_RXD/SPI1_MOSI0, 14 PB.1/UART0_TXD/SPI1_MISO0, 15 PB.2/UART0_RTSn/EBI_nWRL/SPI1_CLK, 16 PB.3/UART0_CTSn/EBI_nWRH/SPI1_SS0, 17 PC.3/SPI0_MOSI0/I2S_DO/SC1_RST, 18 PC.2/SPI0_MISO0/I2S_DI/SC1_PWR, 19 PC.1/SPI0_CLK/I2S_BCLK/SC1_DAT, 20 PC.0/SPI0_SS0/I2S_LRCLK/SC1_CLK, 21 PE.5/PWM1_CH1, 22 PB.11/PWM1_CH0/TM3/SC2_DAT/SPI0_MISO0, 23 PB.10/SPI0_SS1/TM2/SC2_CLK/SPI0_MOSI0, 24 PB.9/SPI1_SS1/TM1/SC2_RST/INT0, 25 PA.15/PWM0_CH3/I2S_MCLK/TC3/SC0_PWR/UART0_TXD, 26 PA.14/PWM0_CH2/EBI_AD15/TC2/UART0_RXD, 27 PA.13/PWM0_CH1/EBI_AD14/TC1/I2C0_SCL, 28 PA.12/PWM0_CH0/EBI_AD13/TC0/I2C0_SDA, 29 PF.0/ICE_DAT, 30 PF.1/ICE_CLK, 31 AVSS, 32 PA.0/AD0/SC2_CD, 33 PA.1/AD1/EBI_AD12, 34 PA.2/AD2/EBI_AD11/UART1_RXD, 35 PA.3/AD3/EBI_AD10/UART1_TXD, 36 PA.4/AD4/EBI_AD9/SC2_PWR/I2C0_SDA, 37 PA.5/AD5/EBI_AD8/SC2_RST/I2C0_SCL, 38 PA.6/AD6/EBI_AD7/TC3/SC2_CLK/PWM0_CH3, 39 VREF, 40 AVDD, 41 PC.7/DA1_OUT/EBI_AD5/TC1/PWM0_CH1, 42 PC.6/DA0_OUT/EBI_AD4/TC0/SC1_CD/PWM0_CH0, 43 PB.15/INT1/SNOOPER/SC1_CD, 44 XT1_IN, 45 XT1_OUT, 46 nRESET, 47 PVSS, 48 PB.8/STADC/TM0/INT0/SC2_PWR
2 alternate drawings of the same symbol

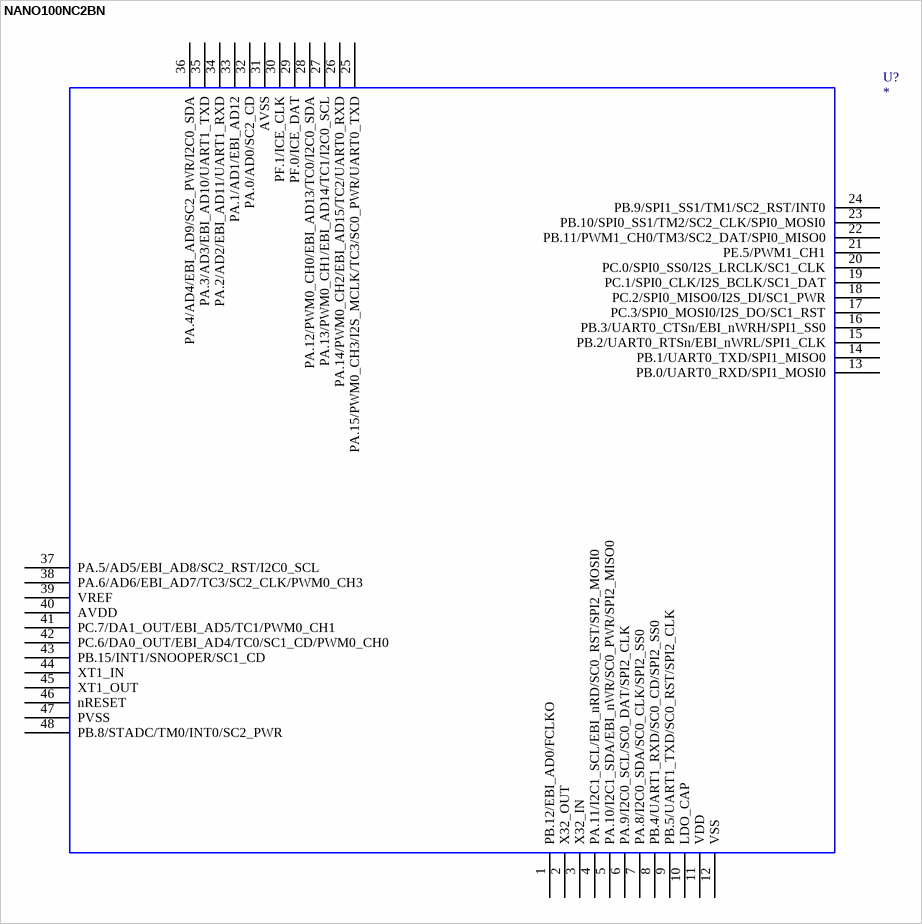
[diagram p9: symbol NANO100NC2BN]

## NANO100NC2BN
designator U?
NANO100NC2BN; OriginalSymbolOrigin: *; NANO100NC2BN: *; Value: *
footprint __MCU_QFN_48_7x7__
pins: 1 PB.12/EBI_AD0/FCLKO, 2 X32_OUT, 3 X32_IN, 4 PA.11/I2C1_SCL/EBI_nRD/SC0_RST/SPI2_MOSI0, 5 PA.10/I2C1_SDA/EBI_nWR/SC0_PWR/SPI2_MISO0, 6 PA.9/I2C0_SCL/SC0_DAT/SPI2_CLK, 7 PA.8/I2C0_SDA/SC0_CLK/SPI2_SS0, 8 PB.4/UART1_RXD/SC0_CD/SPI2_SS0, 9 PB.5/UART1_TXD/SC0_RST/SPI2_CLK, 10 LDO_CAP, 11 VDD, 12 VSS, 13 PB.0/UART0_RXD/SPI1_MOSI0, 14 PB.1/UART0_TXD/SPI1_MISO0, 15 PB.2/UART0_RTSn/EBI_nWRL/SPI1_CLK, 16 PB.3/UART0_CTSn/EBI_nWRH/SPI1_SS0, 17 PC.3/SPI0_MOSI0/I2S_DO/SC1_RST, 18 PC.2/SPI0_MISO0/I2S_DI/SC1_PWR, 19 PC.1/SPI0_CLK/I2S_BCLK/SC1_DAT, 20 PC.0/SPI0_SS0/I2S_LRCLK/SC1_CLK, 21 PE.5/PWM1_CH1, 22 PB.11/PWM1_CH0/TM3/SC2_DAT/SPI0_MISO0, 23 PB.10/SPI0_SS1/TM2/SC2_CLK/SPI0_MOSI0, 24 PB.9/SPI1_SS1/TM1/SC2_RST/INT0, 25 PA.15/PWM0_CH3/I2S_MCLK/TC3/SC0_PWR/UART0_TXD, 26 PA.14/PWM0_CH2/EBI_AD15/TC2/UART0_RXD, 27 PA.13/PWM0_CH1/EBI_AD14/TC1/I2C0_SCL, 28 PA.12/PWM0_CH0/EBI_AD13/TC0/I2C0_SDA, 29 PF.0/ICE_DAT, 30 PF.1/ICE_CLK, 31 AVSS, 32 PA.0/AD0/SC2_CD, 33 PA.1/AD1/EBI_AD12, 34 PA.2/AD2/EBI_AD11/UART1_RXD, 35 PA.3/AD3/EBI_AD10/UART1_TXD, 36 PA.4/AD4/EBI_AD9/SC2_PWR/I2C0_SDA, 37 PA.5/AD5/EBI_AD8/SC2_RST/I2C0_SCL, 38 PA.6/AD6/EBI_AD7/TC3/SC2_CLK/PWM0_CH3, 39 VREF, 40 AVDD, 41 PC.7/DA1_OUT/EBI_AD5/TC1/PWM0_CH1, 42 PC.6/DA0_OUT/EBI_AD4/TC0/SC1_CD/PWM0_CH0, 43 PB.15/INT1/SNOOPER/SC1_CD, 44 XT1_IN, 45 XT1_OUT, 46 nRESET, 47 PVSS, 48 PB.8/STADC/TM0/INT0/SC2_PWR
2 alternate drawings of the same symbol

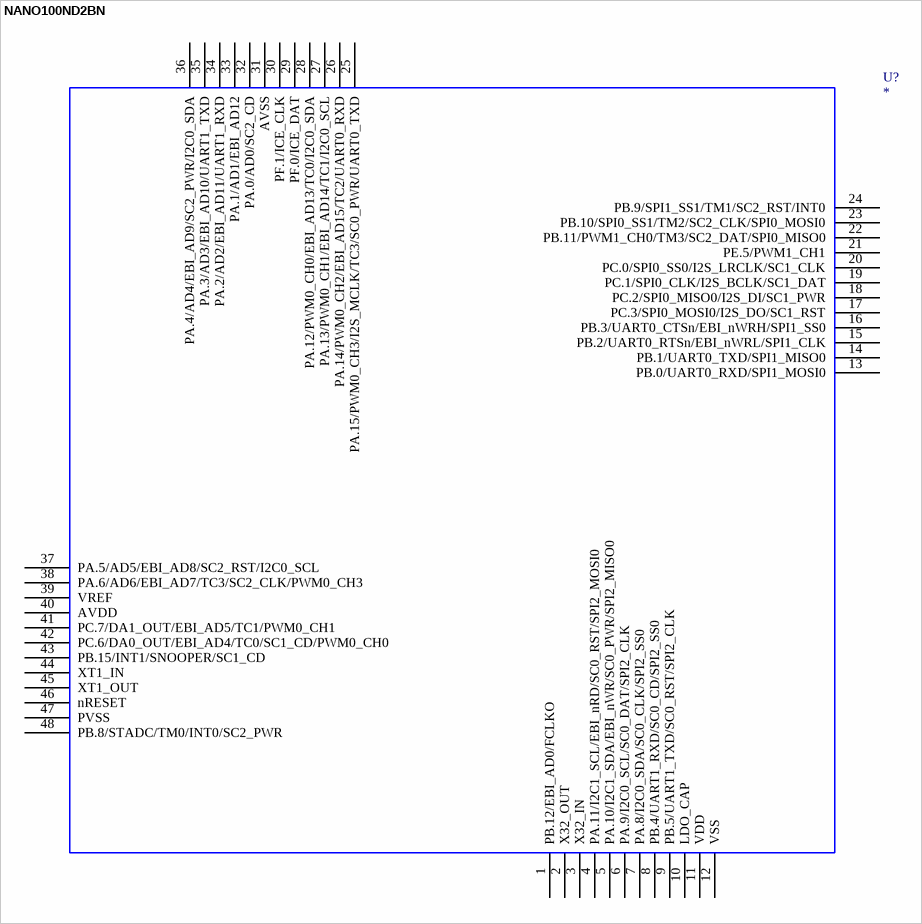
[diagram p10: symbol NANO100ND2BN]

## NANO100ND2BN
designator U?
NANO100ND2BN; OriginalSymbolOrigin: *; NANO100ND2BN: *; Value: *
footprint __MCU_QFN_48_7x7__
pins: 1 PB.12/EBI_AD0/FCLKO, 2 X32_OUT, 3 X32_IN, 4 PA.11/I2C1_SCL/EBI_nRD/SC0_RST/SPI2_MOSI0, 5 PA.10/I2C1_SDA/EBI_nWR/SC0_PWR/SPI2_MISO0, 6 PA.9/I2C0_SCL/SC0_DAT/SPI2_CLK, 7 PA.8/I2C0_SDA/SC0_CLK/SPI2_SS0, 8 PB.4/UART1_RXD/SC0_CD/SPI2_SS0, 9 PB.5/UART1_TXD/SC0_RST/SPI2_CLK, 10 LDO_CAP, 11 VDD, 12 VSS, 13 PB.0/UART0_RXD/SPI1_MOSI0, 14 PB.1/UART0_TXD/SPI1_MISO0, 15 PB.2/UART0_RTSn/EBI_nWRL/SPI1_CLK, 16 PB.3/UART0_CTSn/EBI_nWRH/SPI1_SS0, 17 PC.3/SPI0_MOSI0/I2S_DO/SC1_RST, 18 PC.2/SPI0_MISO0/I2S_DI/SC1_PWR, 19 PC.1/SPI0_CLK/I2S_BCLK/SC1_DAT, 20 PC.0/SPI0_SS0/I2S_LRCLK/SC1_CLK, 21 PE.5/PWM1_CH1, 22 PB.11/PWM1_CH0/TM3/SC2_DAT/SPI0_MISO0, 23 PB.10/SPI0_SS1/TM2/SC2_CLK/SPI0_MOSI0, 24 PB.9/SPI1_SS1/TM1/SC2_RST/INT0, 25 PA.15/PWM0_CH3/I2S_MCLK/TC3/SC0_PWR/UART0_TXD, 26 PA.14/PWM0_CH2/EBI_AD15/TC2/UART0_RXD, 27 PA.13/PWM0_CH1/EBI_AD14/TC1/I2C0_SCL, 28 PA.12/PWM0_CH0/EBI_AD13/TC0/I2C0_SDA, 29 PF.0/ICE_DAT, 30 PF.1/ICE_CLK, 31 AVSS, 32 PA.0/AD0/SC2_CD, 33 PA.1/AD1/EBI_AD12, 34 PA.2/AD2/EBI_AD11/UART1_RXD, 35 PA.3/AD3/EBI_AD10/UART1_TXD, 36 PA.4/AD4/EBI_AD9/SC2_PWR/I2C0_SDA, 37 PA.5/AD5/EBI_AD8/SC2_RST/I2C0_SCL, 38 PA.6/AD6/EBI_AD7/TC3/SC2_CLK/PWM0_CH3, 39 VREF, 40 AVDD, 41 PC.7/DA1_OUT/EBI_AD5/TC1/PWM0_CH1, 42 PC.6/DA0_OUT/EBI_AD4/TC0/SC1_CD/PWM0_CH0, 43 PB.15/INT1/SNOOPER/SC1_CD, 44 XT1_IN, 45 XT1_OUT, 46 nRESET, 47 PVSS, 48 PB.8/STADC/TM0/INT0/SC2_PWR
2 alternate drawings of the same symbol

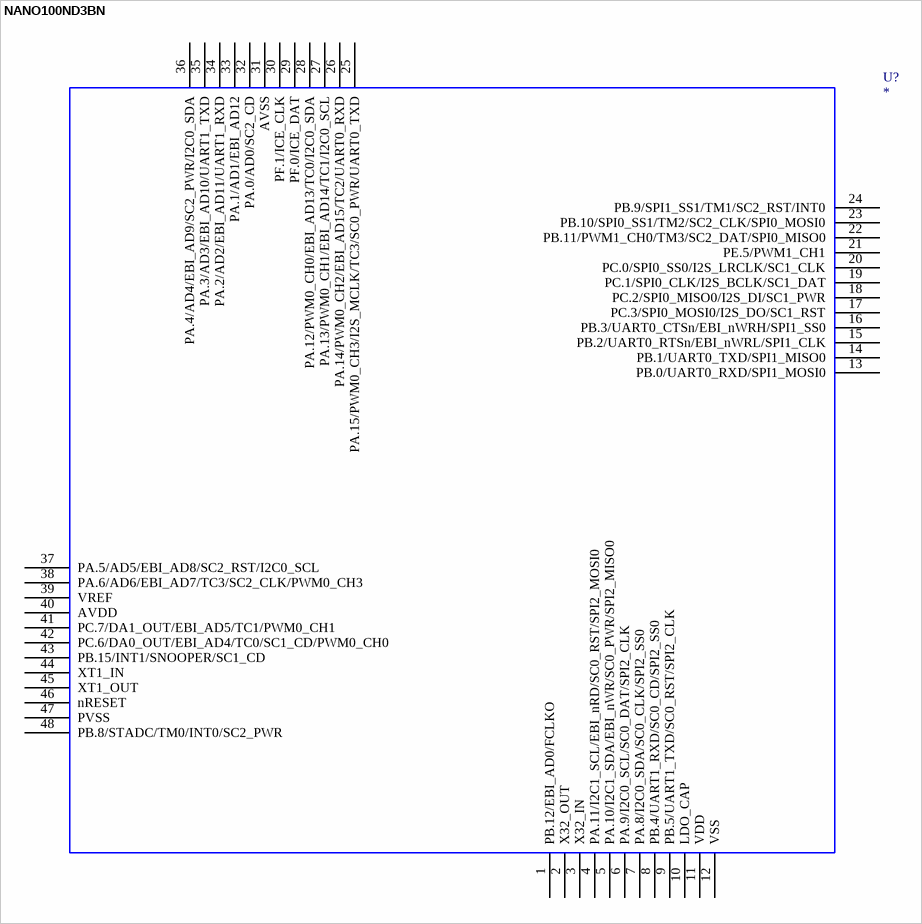
[diagram p11: symbol NANO100ND3BN]

## NANO100ND3BN
designator U?
NANO100ND3BN; OriginalSymbolOrigin: *; NANO100ND3BN: *; Value: *
footprint __MCU_QFN_48_7x7__
pins: 1 PB.12/EBI_AD0/FCLKO, 2 X32_OUT, 3 X32_IN, 4 PA.11/I2C1_SCL/EBI_nRD/SC0_RST/SPI2_MOSI0, 5 PA.10/I2C1_SDA/EBI_nWR/SC0_PWR/SPI2_MISO0, 6 PA.9/I2C0_SCL/SC0_DAT/SPI2_CLK, 7 PA.8/I2C0_SDA/SC0_CLK/SPI2_SS0, 8 PB.4/UART1_RXD/SC0_CD/SPI2_SS0, 9 PB.5/UART1_TXD/SC0_RST/SPI2_CLK, 10 LDO_CAP, 11 VDD, 12 VSS, 13 PB.0/UART0_RXD/SPI1_MOSI0, 14 PB.1/UART0_TXD/SPI1_MISO0, 15 PB.2/UART0_RTSn/EBI_nWRL/SPI1_CLK, 16 PB.3/UART0_CTSn/EBI_nWRH/SPI1_SS0, 17 PC.3/SPI0_MOSI0/I2S_DO/SC1_RST, 18 PC.2/SPI0_MISO0/I2S_DI/SC1_PWR, 19 PC.1/SPI0_CLK/I2S_BCLK/SC1_DAT, 20 PC.0/SPI0_SS0/I2S_LRCLK/SC1_CLK, 21 PE.5/PWM1_CH1, 22 PB.11/PWM1_CH0/TM3/SC2_DAT/SPI0_MISO0, 23 PB.10/SPI0_SS1/TM2/SC2_CLK/SPI0_MOSI0, 24 PB.9/SPI1_SS1/TM1/SC2_RST/INT0, 25 PA.15/PWM0_CH3/I2S_MCLK/TC3/SC0_PWR/UART0_TXD, 26 PA.14/PWM0_CH2/EBI_AD15/TC2/UART0_RXD, 27 PA.13/PWM0_CH1/EBI_AD14/TC1/I2C0_SCL, 28 PA.12/PWM0_CH0/EBI_AD13/TC0/I2C0_SDA, 29 PF.0/ICE_DAT, 30 PF.1/ICE_CLK, 31 AVSS, 32 PA.0/AD0/SC2_CD, 33 PA.1/AD1/EBI_AD12, 34 PA.2/AD2/EBI_AD11/UART1_RXD, 35 PA.3/AD3/EBI_AD10/UART1_TXD, 36 PA.4/AD4/EBI_AD9/SC2_PWR/I2C0_SDA, 37 PA.5/AD5/EBI_AD8/SC2_RST/I2C0_SCL, 38 PA.6/AD6/EBI_AD7/TC3/SC2_CLK/PWM0_CH3, 39 VREF, 40 AVDD, 41 PC.7/DA1_OUT/EBI_AD5/TC1/PWM0_CH1, 42 PC.6/DA0_OUT/EBI_AD4/TC0/SC1_CD/PWM0_CH0, 43 PB.15/INT1/SNOOPER/SC1_CD, 44 XT1_IN, 45 XT1_OUT, 46 nRESET, 47 PVSS, 48 PB.8/STADC/TM0/INT0/SC2_PWR
2 alternate drawings of the same symbol

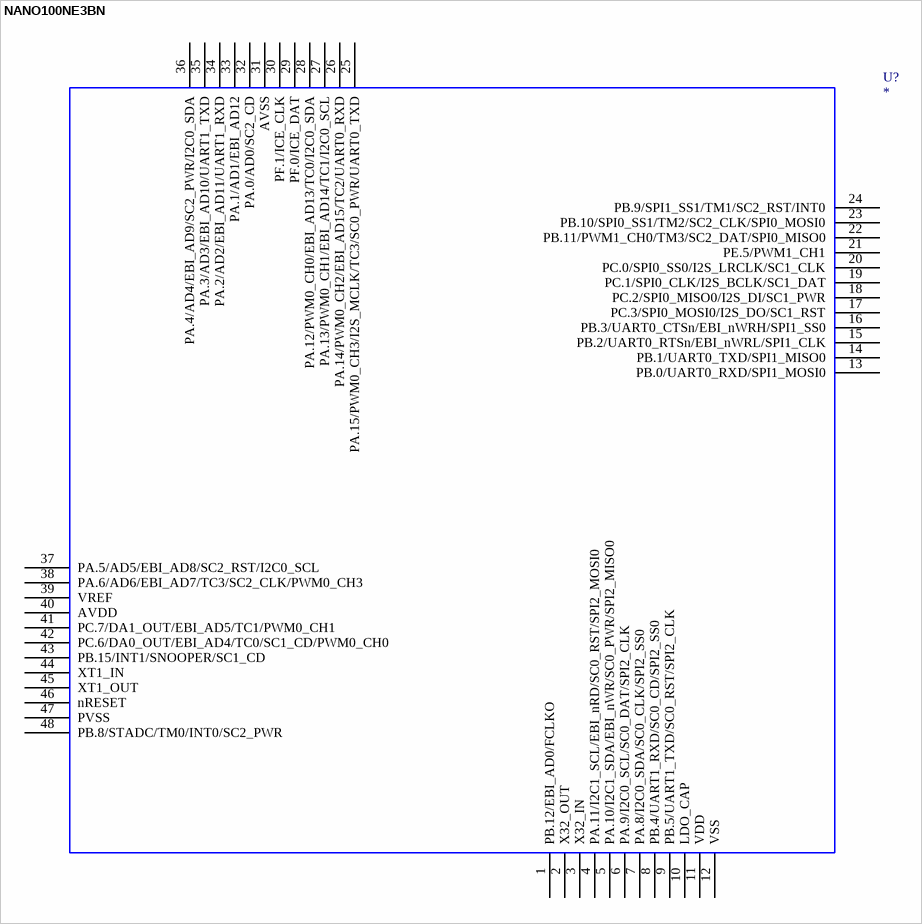
[diagram p12: symbol NANO100NE3BN]

## NANO100NE3BN
designator U?
NANO100NE3BN; OriginalSymbolOrigin: *; NANO100NE3BN: *; Value: *
footprint __MCU_QFN_48_7x7__
pins: 1 PB.12/EBI_AD0/FCLKO, 2 X32_OUT, 3 X32_IN, 4 PA.11/I2C1_SCL/EBI_nRD/SC0_RST/SPI2_MOSI0, 5 PA.10/I2C1_SDA/EBI_nWR/SC0_PWR/SPI2_MISO0, 6 PA.9/I2C0_SCL/SC0_DAT/SPI2_CLK, 7 PA.8/I2C0_SDA/SC0_CLK/SPI2_SS0, 8 PB.4/UART1_RXD/SC0_CD/SPI2_SS0, 9 PB.5/UART1_TXD/SC0_RST/SPI2_CLK, 10 LDO_CAP, 11 VDD, 12 VSS, 13 PB.0/UART0_RXD/SPI1_MOSI0, 14 PB.1/UART0_TXD/SPI1_MISO0, 15 PB.2/UART0_RTSn/EBI_nWRL/SPI1_CLK, 16 PB.3/UART0_CTSn/EBI_nWRH/SPI1_SS0, 17 PC.3/SPI0_MOSI0/I2S_DO/SC1_RST, 18 PC.2/SPI0_MISO0/I2S_DI/SC1_PWR, 19 PC.1/SPI0_CLK/I2S_BCLK/SC1_DAT, 20 PC.0/SPI0_SS0/I2S_LRCLK/SC1_CLK, 21 PE.5/PWM1_CH1, 22 PB.11/PWM1_CH0/TM3/SC2_DAT/SPI0_MISO0, 23 PB.10/SPI0_SS1/TM2/SC2_CLK/SPI0_MOSI0, 24 PB.9/SPI1_SS1/TM1/SC2_RST/INT0, 25 PA.15/PWM0_CH3/I2S_MCLK/TC3/SC0_PWR/UART0_TXD, 26 PA.14/PWM0_CH2/EBI_AD15/TC2/UART0_RXD, 27 PA.13/PWM0_CH1/EBI_AD14/TC1/I2C0_SCL, 28 PA.12/PWM0_CH0/EBI_AD13/TC0/I2C0_SDA, 29 PF.0/ICE_DAT, 30 PF.1/ICE_CLK, 31 AVSS, 32 PA.0/AD0/SC2_CD, 33 PA.1/AD1/EBI_AD12, 34 PA.2/AD2/EBI_AD11/UART1_RXD, 35 PA.3/AD3/EBI_AD10/UART1_TXD, 36 PA.4/AD4/EBI_AD9/SC2_PWR/I2C0_SDA, 37 PA.5/AD5/EBI_AD8/SC2_RST/I2C0_SCL, 38 PA.6/AD6/EBI_AD7/TC3/SC2_CLK/PWM0_CH3, 39 VREF, 40 AVDD, 41 PC.7/DA1_OUT/EBI_AD5/TC1/PWM0_CH1, 42 PC.6/DA0_OUT/EBI_AD4/TC0/SC1_CD/PWM0_CH0, 43 PB.15/INT1/SNOOPER/SC1_CD, 44 XT1_IN, 45 XT1_OUT, 46 nRESET, 47 PVSS, 48 PB.8/STADC/TM0/INT0/SC2_PWR
2 alternate drawings of the same symbol

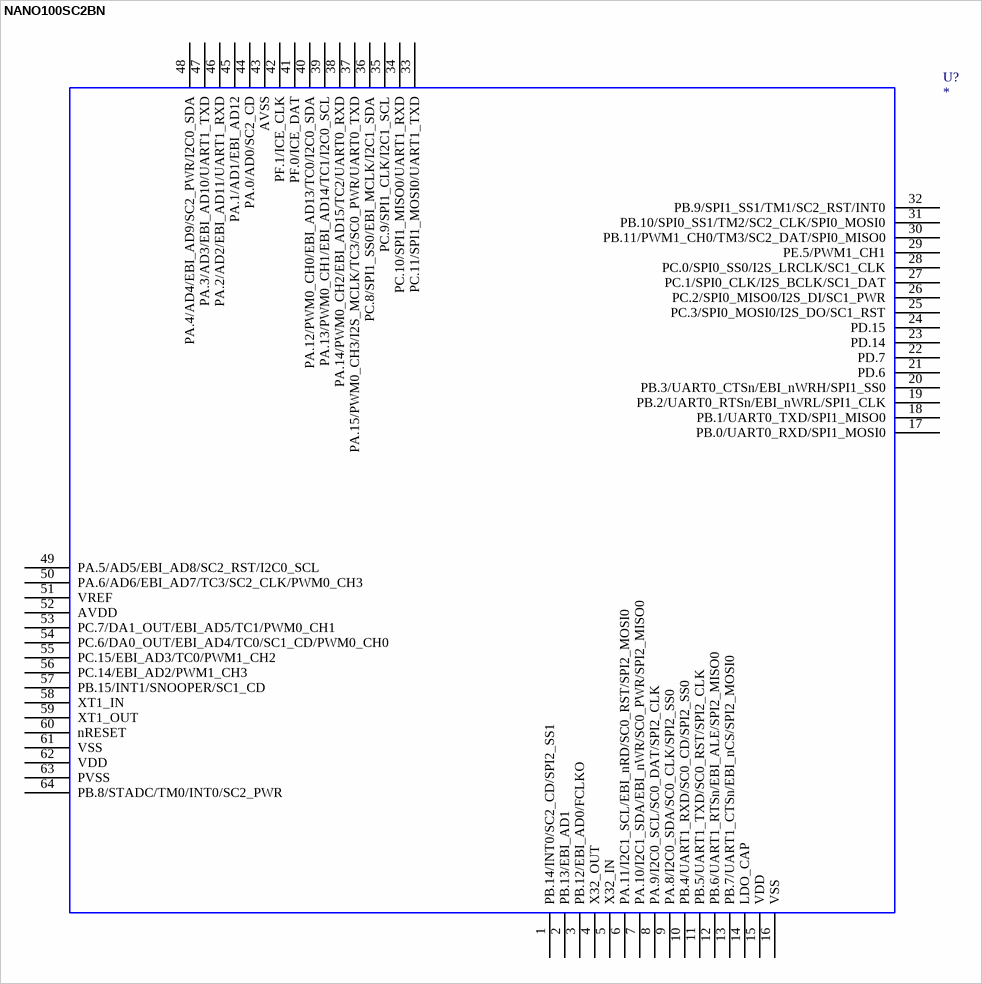
[diagram p13: symbol NANO100SC2BN]

## NANO100SC2BN
designator U?
NANO100SC2BN; OriginalSymbolOrigin: *; NANO100SC2BN: *; Value: *
footprint __MCU_LQFP_64_7x7__
pins: 1 PB.14/INT0/SC2_CD/SPI2_SS1, 2 PB.13/EBI_AD1, 3 PB.12/EBI_AD0/FCLKO, 4 X32_OUT, 5 X32_IN, 6 PA.11/I2C1_SCL/EBI_nRD/SC0_RST/SPI2_MOSI0, 7 PA.10/I2C1_SDA/EBI_nWR/SC0_PWR/SPI2_MISO0, 8 PA.9/I2C0_SCL/SC0_DAT/SPI2_CLK, 9 PA.8/I2C0_SDA/SC0_CLK/SPI2_SS0, 10 PB.4/UART1_RXD/SC0_CD/SPI2_SS0, 11 PB.5/UART1_TXD/SC0_RST/SPI2_CLK, 12 PB.6/UART1_RTSn/EBI_ALE/SPI2_MISO0, 13 PB.7/UART1_CTSn/EBI_nCS/SPI2_MOSI0, 14 LDO_CAP, 15 VDD, 16 VSS, 17 PB.0/UART0_RXD/SPI1_MOSI0, 18 PB.1/UART0_TXD/SPI1_MISO0, 19 PB.2/UART0_RTSn/EBI_nWRL/SPI1_CLK, 20 PB.3/UART0_CTSn/EBI_nWRH/SPI1_SS0, 21 PD.6, 22 PD.7, 23 PD.14, 24 PD.15, 25 PC.3/SPI0_MOSI0/I2S_DO/SC1_RST, 26 PC.2/SPI0_MISO0/I2S_DI/SC1_PWR, 27 PC.1/SPI0_CLK/I2S_BCLK/SC1_DAT, 28 PC.0/SPI0_SS0/I2S_LRCLK/SC1_CLK, 29 PE.5/PWM1_CH1, 30 PB.11/PWM1_CH0/TM3/SC2_DAT/SPI0_MISO0, 31 PB.10/SPI0_SS1/TM2/SC2_CLK/SPI0_MOSI0, 32 PB.9/SPI1_SS1/TM1/SC2_RST/INT0, 33 PC.11/SPI1_MOSI0/UART1_TXD, 34 PC.10/SPI1_MISO0/UART1_RXD, 35 PC.9/SPI1_CLK/I2C1_SCL, 36 PC.8/SPI1_SS0/EBI_MCLK/I2C1_SDA, 37 PA.15/PWM0_CH3/I2S_MCLK/TC3/SC0_PWR/UART0_TXD, 38 PA.14/PWM0_CH2/EBI_AD15/TC2/UART0_RXD, 39 PA.13/PWM0_CH1/EBI_AD14/TC1/I2C0_SCL, 40 PA.12/PWM0_CH0/EBI_AD13/TC0/I2C0_SDA, 41 PF.0/ICE_DAT, 42 PF.1/ICE_CLK, 43 AVSS, 44 PA.0/AD0/SC2_CD, 45 PA.1/AD1/EBI_AD12, 46 PA.2/AD2/EBI_AD11/UART1_RXD, 47 PA.3/AD3/EBI_AD10/UART1_TXD, 48 PA.4/AD4/EBI_AD9/SC2_PWR/I2C0_SDA, 49 PA.5/AD5/EBI_AD8/SC2_RST/I2C0_SCL, 50 PA.6/AD6/EBI_AD7/TC3/SC2_CLK/PWM0_CH3, 51 VREF, 52 AVDD, 53 PC.7/DA1_OUT/EBI_AD5/TC1/PWM0_CH1, 54 PC.6/DA0_OUT/EBI_AD4/TC0/SC1_CD/PWM0_CH0, 55 PC.15/EBI_AD3/TC0/PWM1_CH2, 56 PC.14/EBI_AD2/PWM1_CH3, 57 PB.15/INT1/SNOOPER/SC1_CD, 58 XT1_IN, 59 XT1_OUT, 60 nRESET, 61 VSS, 62 VDD, 63 PVSS, 64 PB.8/STADC/TM0/INT0/SC2_PWR
2 alternate drawings of the same symbol

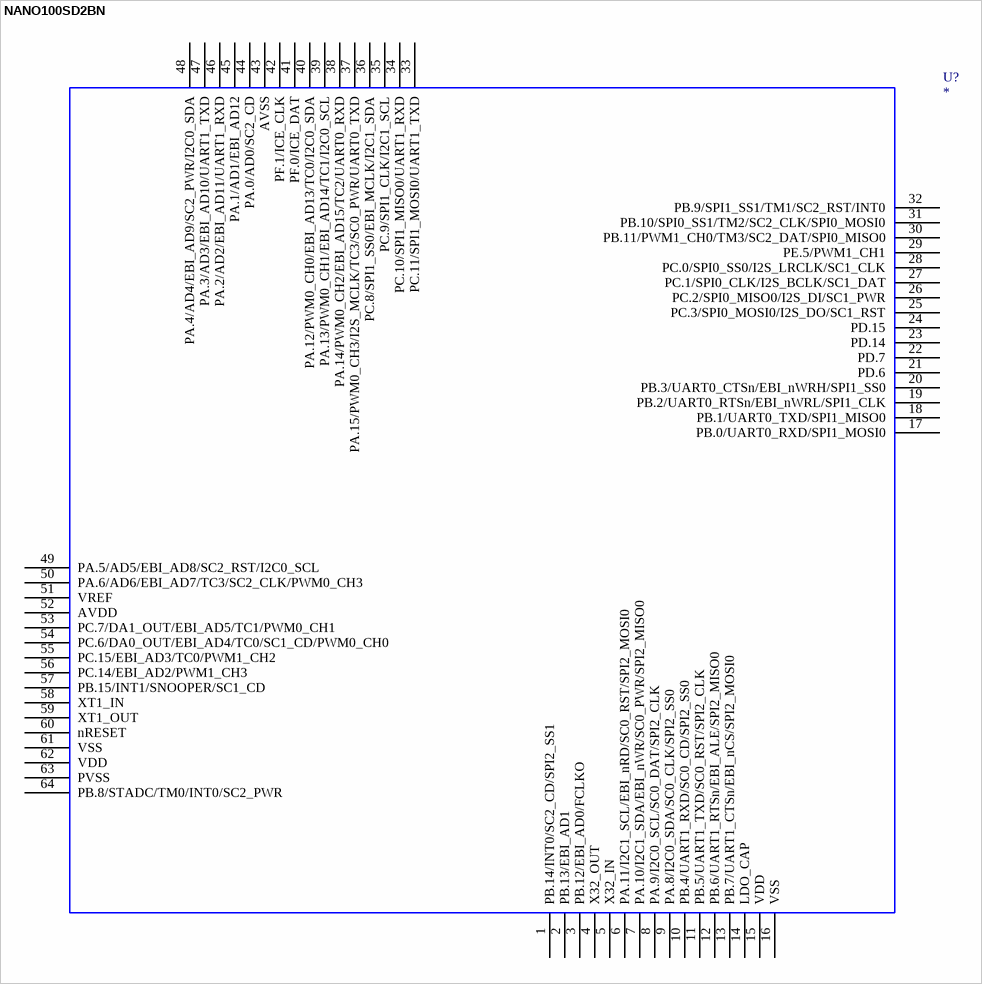
[diagram p14: symbol NANO100SD2BN]

## NANO100SD2BN
designator U?
NANO100SD2BN; OriginalSymbolOrigin: *; NANO100SD2BN: *; Value: *
footprint __MCU_LQFP_64_7x7__
pins: 1 PB.14/INT0/SC2_CD/SPI2_SS1, 2 PB.13/EBI_AD1, 3 PB.12/EBI_AD0/FCLKO, 4 X32_OUT, 5 X32_IN, 6 PA.11/I2C1_SCL/EBI_nRD/SC0_RST/SPI2_MOSI0, 7 PA.10/I2C1_SDA/EBI_nWR/SC0_PWR/SPI2_MISO0, 8 PA.9/I2C0_SCL/SC0_DAT/SPI2_CLK, 9 PA.8/I2C0_SDA/SC0_CLK/SPI2_SS0, 10 PB.4/UART1_RXD/SC0_CD/SPI2_SS0, 11 PB.5/UART1_TXD/SC0_RST/SPI2_CLK, 12 PB.6/UART1_RTSn/EBI_ALE/SPI2_MISO0, 13 PB.7/UART1_CTSn/EBI_nCS/SPI2_MOSI0, 14 LDO_CAP, 15 VDD, 16 VSS, 17 PB.0/UART0_RXD/SPI1_MOSI0, 18 PB.1/UART0_TXD/SPI1_MISO0, 19 PB.2/UART0_RTSn/EBI_nWRL/SPI1_CLK, 20 PB.3/UART0_CTSn/EBI_nWRH/SPI1_SS0, 21 PD.6, 22 PD.7, 23 PD.14, 24 PD.15, 25 PC.3/SPI0_MOSI0/I2S_DO/SC1_RST, 26 PC.2/SPI0_MISO0/I2S_DI/SC1_PWR, 27 PC.1/SPI0_CLK/I2S_BCLK/SC1_DAT, 28 PC.0/SPI0_SS0/I2S_LRCLK/SC1_CLK, 29 PE.5/PWM1_CH1, 30 PB.11/PWM1_CH0/TM3/SC2_DAT/SPI0_MISO0, 31 PB.10/SPI0_SS1/TM2/SC2_CLK/SPI0_MOSI0, 32 PB.9/SPI1_SS1/TM1/SC2_RST/INT0, 33 PC.11/SPI1_MOSI0/UART1_TXD, 34 PC.10/SPI1_MISO0/UART1_RXD, 35 PC.9/SPI1_CLK/I2C1_SCL, 36 PC.8/SPI1_SS0/EBI_MCLK/I2C1_SDA, 37 PA.15/PWM0_CH3/I2S_MCLK/TC3/SC0_PWR/UART0_TXD, 38 PA.14/PWM0_CH2/EBI_AD15/TC2/UART0_RXD, 39 PA.13/PWM0_CH1/EBI_AD14/TC1/I2C0_SCL, 40 PA.12/PWM0_CH0/EBI_AD13/TC0/I2C0_SDA, 41 PF.0/ICE_DAT, 42 PF.1/ICE_CLK, 43 AVSS, 44 PA.0/AD0/SC2_CD, 45 PA.1/AD1/EBI_AD12, 46 PA.2/AD2/EBI_AD11/UART1_RXD, 47 PA.3/AD3/EBI_AD10/UART1_TXD, 48 PA.4/AD4/EBI_AD9/SC2_PWR/I2C0_SDA, 49 PA.5/AD5/EBI_AD8/SC2_RST/I2C0_SCL, 50 PA.6/AD6/EBI_AD7/TC3/SC2_CLK/PWM0_CH3, 51 VREF, 52 AVDD, 53 PC.7/DA1_OUT/EBI_AD5/TC1/PWM0_CH1, 54 PC.6/DA0_OUT/EBI_AD4/TC0/SC1_CD/PWM0_CH0, 55 PC.15/EBI_AD3/TC0/PWM1_CH2, 56 PC.14/EBI_AD2/PWM1_CH3, 57 PB.15/INT1/SNOOPER/SC1_CD, 58 XT1_IN, 59 XT1_OUT, 60 nRESET, 61 VSS, 62 VDD, 63 PVSS, 64 PB.8/STADC/TM0/INT0/SC2_PWR
2 alternate drawings of the same symbol

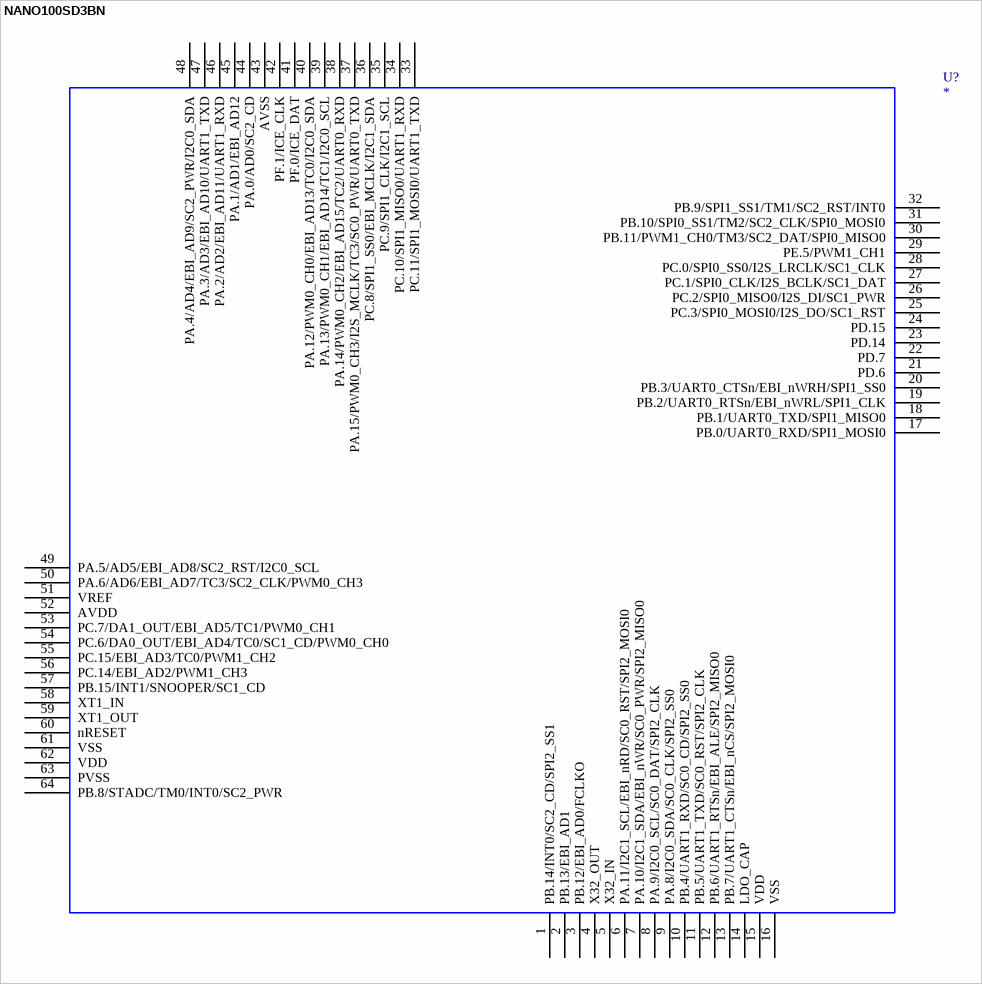
[diagram p15: symbol NANO100SD3BN]

## NANO100SD3BN
designator U?
NANO100SD3BN; OriginalSymbolOrigin: *; NANO100SD3BN: *; Value: *
footprint __MCU_LQFP_64_7x7__
pins: 1 PB.14/INT0/SC2_CD/SPI2_SS1, 2 PB.13/EBI_AD1, 3 PB.12/EBI_AD0/FCLKO, 4 X32_OUT, 5 X32_IN, 6 PA.11/I2C1_SCL/EBI_nRD/SC0_RST/SPI2_MOSI0, 7 PA.10/I2C1_SDA/EBI_nWR/SC0_PWR/SPI2_MISO0, 8 PA.9/I2C0_SCL/SC0_DAT/SPI2_CLK, 9 PA.8/I2C0_SDA/SC0_CLK/SPI2_SS0, 10 PB.4/UART1_RXD/SC0_CD/SPI2_SS0, 11 PB.5/UART1_TXD/SC0_RST/SPI2_CLK, 12 PB.6/UART1_RTSn/EBI_ALE/SPI2_MISO0, 13 PB.7/UART1_CTSn/EBI_nCS/SPI2_MOSI0, 14 LDO_CAP, 15 VDD, 16 VSS, 17 PB.0/UART0_RXD/SPI1_MOSI0, 18 PB.1/UART0_TXD/SPI1_MISO0, 19 PB.2/UART0_RTSn/EBI_nWRL/SPI1_CLK, 20 PB.3/UART0_CTSn/EBI_nWRH/SPI1_SS0, 21 PD.6, 22 PD.7, 23 PD.14, 24 PD.15, 25 PC.3/SPI0_MOSI0/I2S_DO/SC1_RST, 26 PC.2/SPI0_MISO0/I2S_DI/SC1_PWR, 27 PC.1/SPI0_CLK/I2S_BCLK/SC1_DAT, 28 PC.0/SPI0_SS0/I2S_LRCLK/SC1_CLK, 29 PE.5/PWM1_CH1, 30 PB.11/PWM1_CH0/TM3/SC2_DAT/SPI0_MISO0, 31 PB.10/SPI0_SS1/TM2/SC2_CLK/SPI0_MOSI0, 32 PB.9/SPI1_SS1/TM1/SC2_RST/INT0, 33 PC.11/SPI1_MOSI0/UART1_TXD, 34 PC.10/SPI1_MISO0/UART1_RXD, 35 PC.9/SPI1_CLK/I2C1_SCL, 36 PC.8/SPI1_SS0/EBI_MCLK/I2C1_SDA, 37 PA.15/PWM0_CH3/I2S_MCLK/TC3/SC0_PWR/UART0_TXD, 38 PA.14/PWM0_CH2/EBI_AD15/TC2/UART0_RXD, 39 PA.13/PWM0_CH1/EBI_AD14/TC1/I2C0_SCL, 40 PA.12/PWM0_CH0/EBI_AD13/TC0/I2C0_SDA, 41 PF.0/ICE_DAT, 42 PF.1/ICE_CLK, 43 AVSS, 44 PA.0/AD0/SC2_CD, 45 PA.1/AD1/EBI_AD12, 46 PA.2/AD2/EBI_AD11/UART1_RXD, 47 PA.3/AD3/EBI_AD10/UART1_TXD, 48 PA.4/AD4/EBI_AD9/SC2_PWR/I2C0_SDA, 49 PA.5/AD5/EBI_AD8/SC2_RST/I2C0_SCL, 50 PA.6/AD6/EBI_AD7/TC3/SC2_CLK/PWM0_CH3, 51 VREF, 52 AVDD, 53 PC.7/DA1_OUT/EBI_AD5/TC1/PWM0_CH1, 54 PC.6/DA0_OUT/EBI_AD4/TC0/SC1_CD/PWM0_CH0, 55 PC.15/EBI_AD3/TC0/PWM1_CH2, 56 PC.14/EBI_AD2/PWM1_CH3, 57 PB.15/INT1/SNOOPER/SC1_CD, 58 XT1_IN, 59 XT1_OUT, 60 nRESET, 61 VSS, 62 VDD, 63 PVSS, 64 PB.8/STADC/TM0/INT0/SC2_PWR
2 alternate drawings of the same symbol

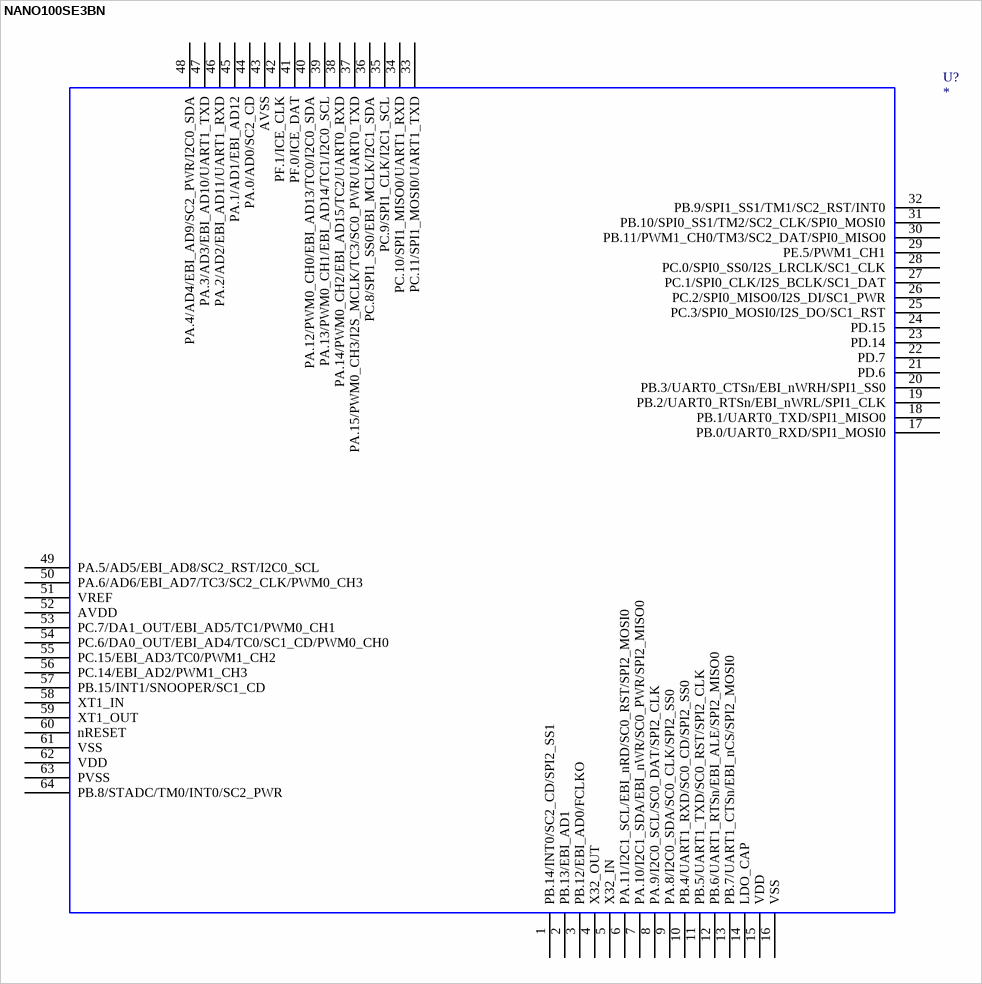
[diagram p16: symbol NANO100SE3BN]

## NANO100SE3BN
designator U?
NANO100SE3BN; OriginalSymbolOrigin: *; NANO100SE3BN: *; Value: *
footprint __MCU_LQFP_64_7x7__
pins: 1 PB.14/INT0/SC2_CD/SPI2_SS1, 2 PB.13/EBI_AD1, 3 PB.12/EBI_AD0/FCLKO, 4 X32_OUT, 5 X32_IN, 6 PA.11/I2C1_SCL/EBI_nRD/SC0_RST/SPI2_MOSI0, 7 PA.10/I2C1_SDA/EBI_nWR/SC0_PWR/SPI2_MISO0, 8 PA.9/I2C0_SCL/SC0_DAT/SPI2_CLK, 9 PA.8/I2C0_SDA/SC0_CLK/SPI2_SS0, 10 PB.4/UART1_RXD/SC0_CD/SPI2_SS0, 11 PB.5/UART1_TXD/SC0_RST/SPI2_CLK, 12 PB.6/UART1_RTSn/EBI_ALE/SPI2_MISO0, 13 PB.7/UART1_CTSn/EBI_nCS/SPI2_MOSI0, 14 LDO_CAP, 15 VDD, 16 VSS, 17 PB.0/UART0_RXD/SPI1_MOSI0, 18 PB.1/UART0_TXD/SPI1_MISO0, 19 PB.2/UART0_RTSn/EBI_nWRL/SPI1_CLK, 20 PB.3/UART0_CTSn/EBI_nWRH/SPI1_SS0, 21 PD.6, 22 PD.7, 23 PD.14, 24 PD.15, 25 PC.3/SPI0_MOSI0/I2S_DO/SC1_RST, 26 PC.2/SPI0_MISO0/I2S_DI/SC1_PWR, 27 PC.1/SPI0_CLK/I2S_BCLK/SC1_DAT, 28 PC.0/SPI0_SS0/I2S_LRCLK/SC1_CLK, 29 PE.5/PWM1_CH1, 30 PB.11/PWM1_CH0/TM3/SC2_DAT/SPI0_MISO0, 31 PB.10/SPI0_SS1/TM2/SC2_CLK/SPI0_MOSI0, 32 PB.9/SPI1_SS1/TM1/SC2_RST/INT0, 33 PC.11/SPI1_MOSI0/UART1_TXD, 34 PC.10/SPI1_MISO0/UART1_RXD, 35 PC.9/SPI1_CLK/I2C1_SCL, 36 PC.8/SPI1_SS0/EBI_MCLK/I2C1_SDA, 37 PA.15/PWM0_CH3/I2S_MCLK/TC3/SC0_PWR/UART0_TXD, 38 PA.14/PWM0_CH2/EBI_AD15/TC2/UART0_RXD, 39 PA.13/PWM0_CH1/EBI_AD14/TC1/I2C0_SCL, 40 PA.12/PWM0_CH0/EBI_AD13/TC0/I2C0_SDA, 41 PF.0/ICE_DAT, 42 PF.1/ICE_CLK, 43 AVSS, 44 PA.0/AD0/SC2_CD, 45 PA.1/AD1/EBI_AD12, 46 PA.2/AD2/EBI_AD11/UART1_RXD, 47 PA.3/AD3/EBI_AD10/UART1_TXD, 48 PA.4/AD4/EBI_AD9/SC2_PWR/I2C0_SDA, 49 PA.5/AD5/EBI_AD8/SC2_RST/I2C0_SCL, 50 PA.6/AD6/EBI_AD7/TC3/SC2_CLK/PWM0_CH3, 51 VREF, 52 AVDD, 53 PC.7/DA1_OUT/EBI_AD5/TC1/PWM0_CH1, 54 PC.6/DA0_OUT/EBI_AD4/TC0/SC1_CD/PWM0_CH0, 55 PC.15/EBI_AD3/TC0/PWM1_CH2, 56 PC.14/EBI_AD2/PWM1_CH3, 57 PB.15/INT1/SNOOPER/SC1_CD, 58 XT1_IN, 59 XT1_OUT, 60 nRESET, 61 VSS, 62 VDD, 63 PVSS, 64 PB.8/STADC/TM0/INT0/SC2_PWR
2 alternate drawings of the same symbol